# Altium schematic symbol library processor_allwinner.SchLib: 6 symbols
Pins are listed as number, name and electrical type; pins without a type are passive.

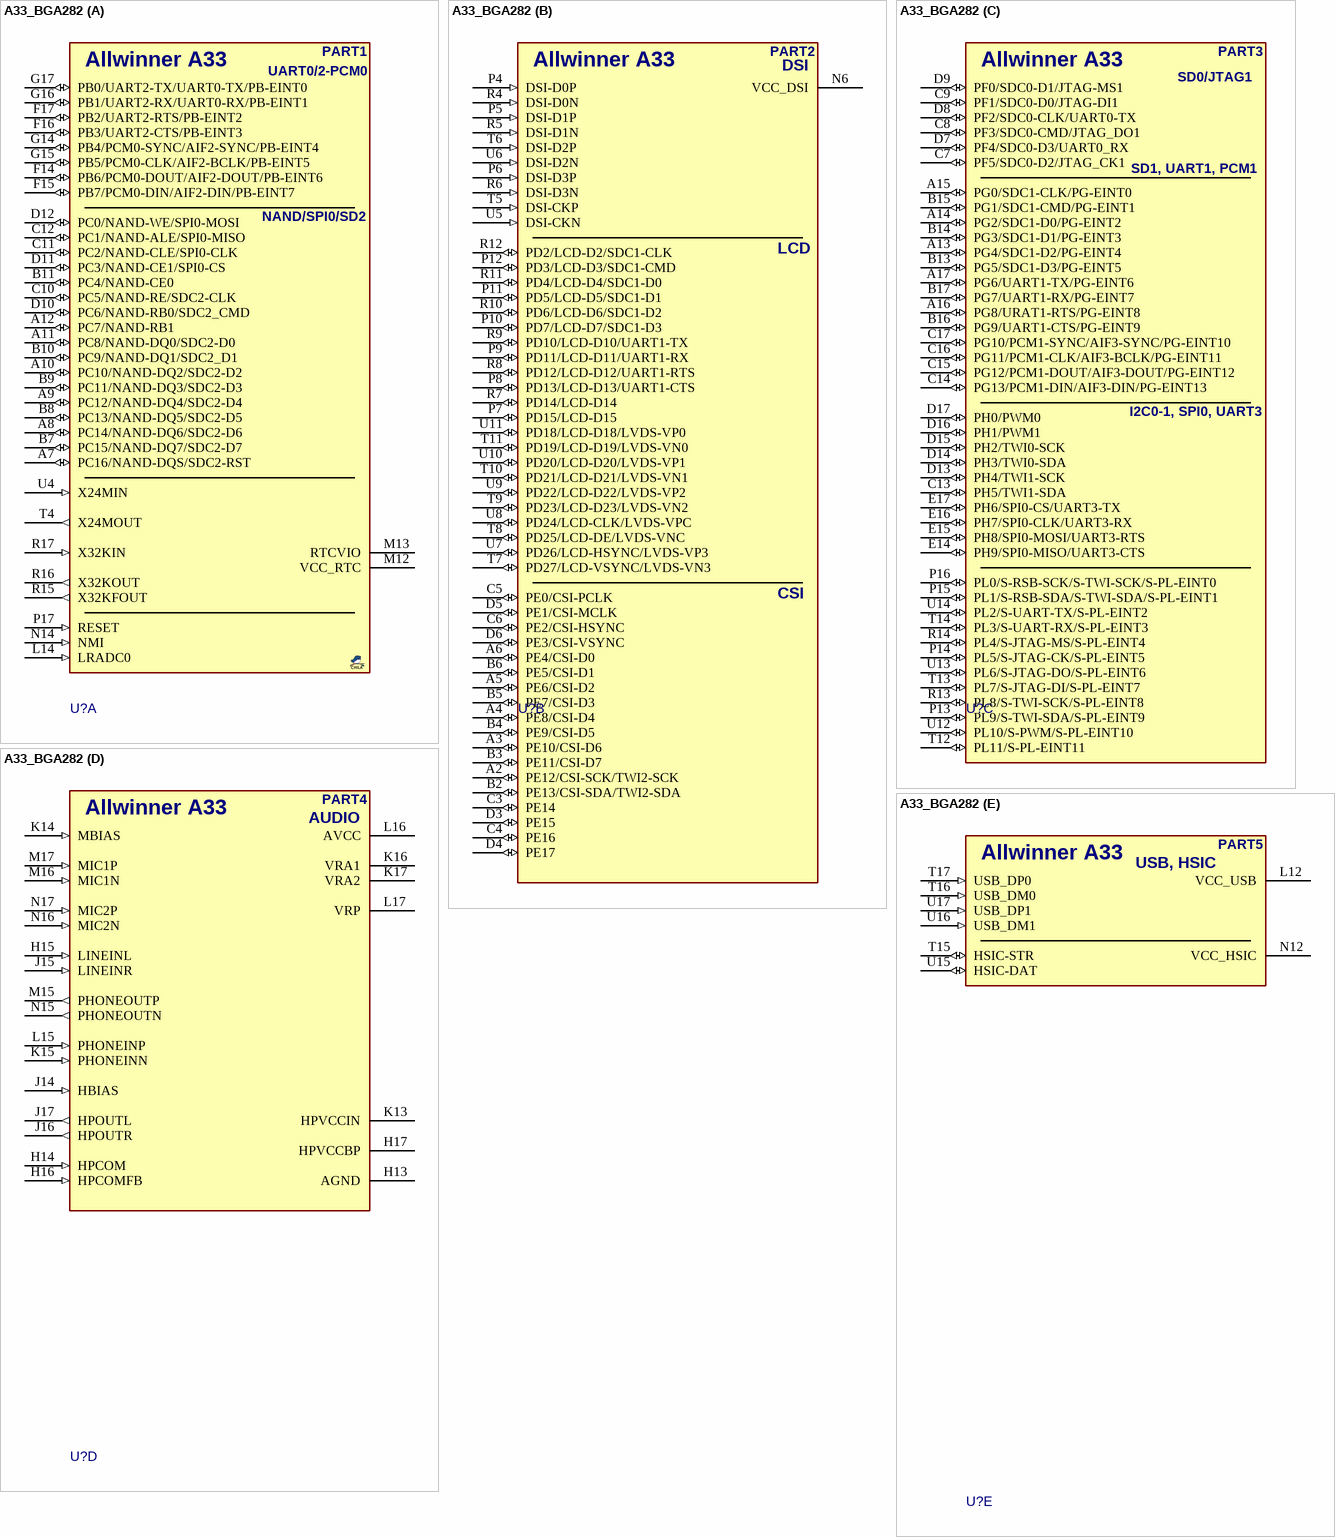
[diagram p0: symbol A33_BGA282]

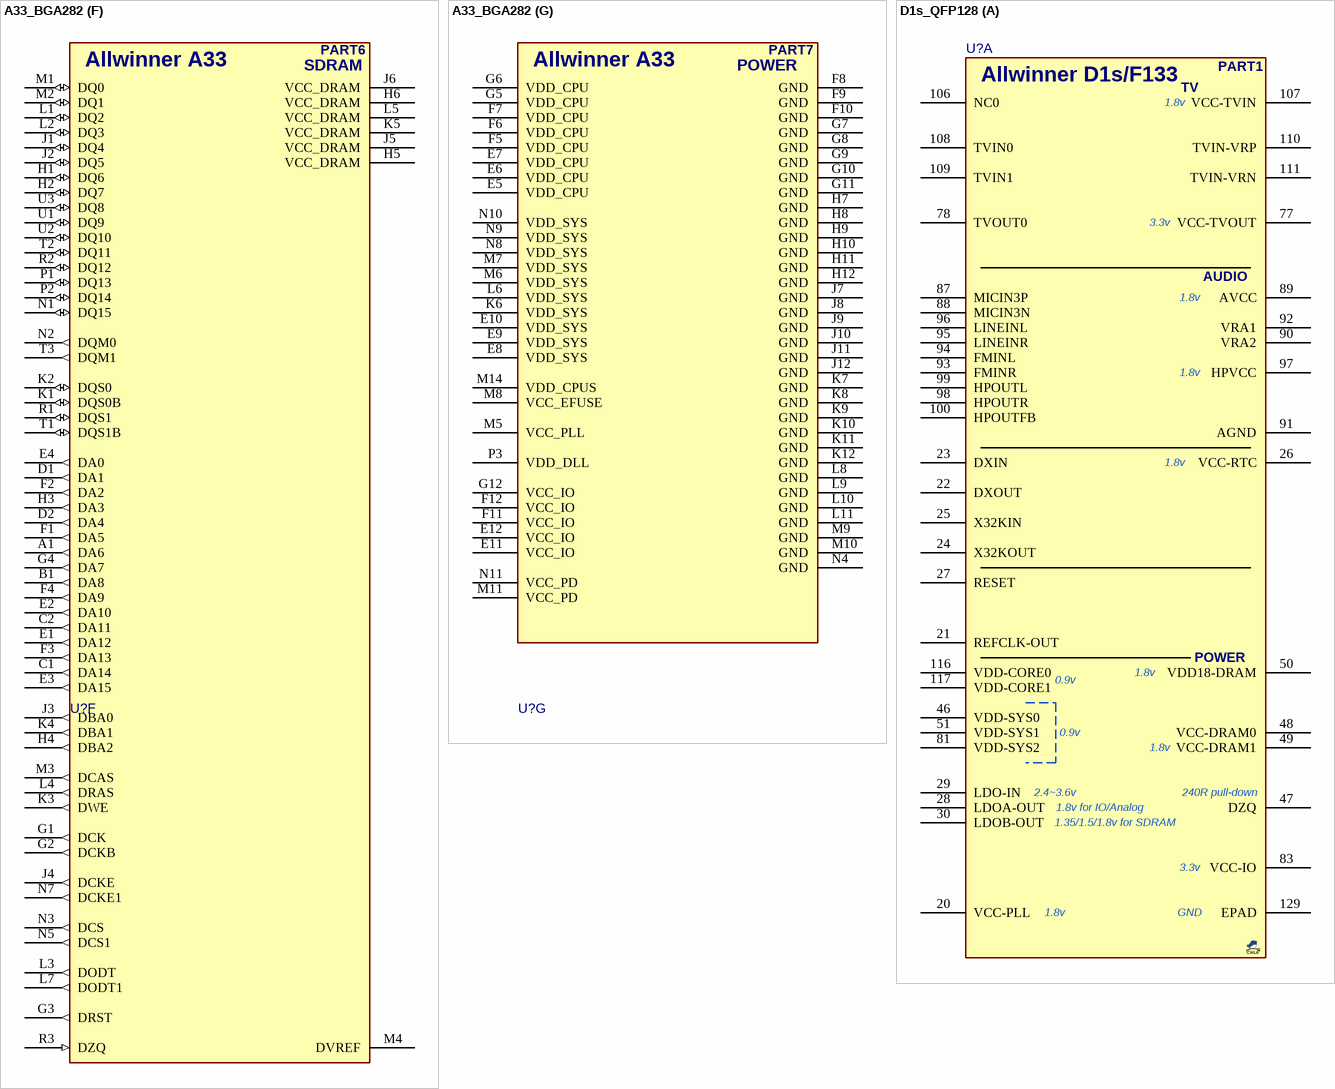
[diagram p1: symbols A33_BGA282 to D1s_QFP128]

## A33_BGA282
designator U?, comment Allwinner A33  (value not drawn)
processor, Cortex-A7 x4, Mali400MP2 GPU; PARAM: 4x Cortex-A7; MANF: Allwinner; MANF_P#: A33; VALUE: Allwinner A33; PACKAGE: TFBGA-282
footprint BGA80_282_S14 (TFBGA282, 0.8mm pitch, 14x14x1.3mm)
part A pins: A7 PC16/NAND-DQS/SDC2-RST (io), A8 PC14/NAND-DQ6/SDC2-D6 (io), A9 PC12/NAND-DQ4/SDC2-D4 (io), A10 PC10/NAND-DQ2/SDC2-D2 (io), A11 PC8/NAND-DQ0/SDC2-D0 (io), A12 PC7/NAND-RB1 (io), B7 PC15/NAND-DQ7/SDC2-D7 (io), B8 PC13/NAND-DQ5/SDC2-D5 (io), B9 PC11/NAND-DQ3/SDC2-D3 (io), B10 PC9/NAND-DQ1/SDC2_D1 (io), B11 PC4/NAND-CE0 (io), C10 PC5/NAND-RE/SDC2-CLK (io), C11 PC2/NAND-CLE/SPI0-CLK (io), C12 PC1/NAND-ALE/SPI0-MISO (io), D10 PC6/NAND-RB0/SDC2_CMD (io), D11 PC3/NAND-CE1/SPI0-CS (io), D12 PC0/NAND-WE/SPI0-MOSI (io), F14 PB6/PCM0-DOUT/AIF2-DOUT/PB-EINT6 (io), F15 PB7/PCM0-DIN/AIF2-DIN/PB-EINT7 (io), F16 PB3/UART2-CTS/PB-EINT3 (io), F17 PB2/UART2-RTS/PB-EINT2 (io), G14 PB4/PCM0-SYNC/AIF2-SYNC/PB-EINT4 (io), G15 PB5/PCM0-CLK/AIF2-BCLK/PB-EINT5 (io), G16 PB1/UART2-RX/UART0-RX/PB-EINT1 (io), G17 PB0/UART2-TX/UART0-TX/PB-EINT0 (io), L14 LRADC0 (in), M12 VCC_RTC, M13 RTCVIO (power), N14 NMI (in), P17 RESET (in), R15 X32KFOUT (out), R16 X32KOUT (out), R17 X32KIN (in), T4 X24MOUT (out), U4 X24MIN (in)
part B pins: A2 PE12/CSI-SCK/TWI2-SCK (io), A3 PE10/CSI-D6 (io), A4 PE8/CSI-D4 (io), A5 PE6/CSI-D2 (io), A6 PE4/CSI-D0 (io), B2 PE13/CSI-SDA/TWI2-SDA (io), B3 PE11/CSI-D7 (io), B4 PE9/CSI-D5 (io), B5 PE7/CSI-D3 (io), B6 PE5/CSI-D1 (io), C3 PE14 (io), C4 PE16 (io), C5 PE0/CSI-PCLK (io), C6 PE2/CSI-HSYNC (io), D3 PE15 (io), D4 PE17 (io), D5 PE1/CSI-MCLK (io), D6 PE3/CSI-VSYNC (io), N6 VCC_DSI, P4 DSI-D0P (in), P5 DSI-D1P (in), P6 DSI-D3P (in), P7 PD15/LCD-D15 (io), P8 PD13/LCD-D13/UART1-CTS (io), P9 PD11/LCD-D11/UART1-RX (io), P10 PD7/LCD-D7/SDC1-D3 (io), P11 PD5/LCD-D5/SDC1-D1 (io), P12 PD3/LCD-D3/SDC1-CMD (io), R4 DSI-D0N (in), R5 DSI-D1N (in), R6 DSI-D3N (in), R7 PD14/LCD-D14 (io), R8 PD12/LCD-D12/UART1-RTS (io), R9 PD10/LCD-D10/UART1-TX (io), R10 PD6/LCD-D6/SDC1-D2 (io), R11 PD4/LCD-D4/SDC1-D0 (io), R12 PD2/LCD-D2/SDC1-CLK (io), T5 DSI-CKP (in), T6 DSI-D2P (in), T7 PD27/LCD-VSYNC/LVDS-VN3 (io), T8 PD25/LCD-DE/LVDS-VNC (io), T9 PD23/LCD-D23/LVDS-VN2 (io), T10 PD21/LCD-D21/LVDS-VN1 (io), T11 PD19/LCD-D19/LVDS-VN0 (io), U5 DSI-CKN (in), U6 DSI-D2N (in), U7 PD26/LCD-HSYNC/LVDS-VP3 (io), U8 PD24/LCD-CLK/LVDS-VPC (io), U9 PD22/LCD-D22/LVDS-VP2 (io), U10 PD20/LCD-D20/LVDS-VP1 (io), U11 PD18/LCD-D18/LVDS-VP0 (io)
part C pins: A13 PG4/SDC1-D2/PG-EINT4 (io), A14 PG2/SDC1-D0/PG-EINT2 (io), A15 PG0/SDC1-CLK/PG-EINT0 (io), A16 PG8/URAT1-RTS/PG-EINT8 (io), A17 PG6/UART1-TX/PG-EINT6 (io), B13 PG5/SDC1-D3/PG-EINT5 (io), B14 PG3/SDC1-D1/PG-EINT3 (io), B15 PG1/SDC1-CMD/PG-EINT1 (io), B16 PG9/UART1-CTS/PG-EINT9 (io), B17 PG7/UART1-RX/PG-EINT7 (io), C7 PF5/SDC0-D2/JTAG_CK1 (io), C8 PF3/SDC0-CMD/JTAG_DO1 (io), C9 PF1/SDC0-D0/JTAG-DI1 (io), C13 PH5/TWI1-SDA (io), C14 PG13/PCM1-DIN/AIF3-DIN/PG-EINT13 (io), C15 PG12/PCM1-DOUT/AIF3-DOUT/PG-EINT12 (io), C16 PG11/PCM1-CLK/AIF3-BCLK/PG-EINT11 (io), C17 PG10/PCM1-SYNC/AIF3-SYNC/PG-EINT10 (io), D7 PF4/SDC0-D3/UART0_RX (io), D8 PF2/SDC0-CLK/UART0-TX (io), D9 PF0/SDC0-D1/JTAG-MS1 (io), D13 PH4/TWI1-SCK (io), D14 PH3/TWI0-SDA (io), D15 PH2/TWI0-SCK (io), D16 PH1/PWM1 (io), D17 PH0/PWM0 (io), E14 PH9/SPI0-MISO/UART3-CTS (io), E15 PH8/SPI0-MOSI/UART3-RTS (io), E16 PH7/SPI0-CLK/UART3-RX (io), E17 PH6/SPI0-CS/UART3-TX (io), P13 PL9/S-TWI-SDA/S-PL-EINT9 (io), P14 PL5/S-JTAG-CK/S-PL-EINT5 (io), P15 PL1/S-RSB-SDA/S-TWI-SDA/S-PL-EINT1 (io), P16 PL0/S-RSB-SCK/S-TWI-SCK/S-PL-EINT0 (io), R13 PL8/S-TWI-SCK/S-PL-EINT8 (io), R14 PL4/S-JTAG-MS/S-PL-EINT4 (io), T12 PL11/S-PL-EINT11 (io), T13 PL7/S-JTAG-DI/S-PL-EINT7 (io), T14 PL3/S-UART-RX/S-PL-EINT3 (io), U12 PL10/S-PWM/S-PL-EINT10 (io), U13 PL6/S-JTAG-DO/S-PL-EINT6 (io), U14 PL2/S-UART-TX/S-PL-EINT2 (io)
part D pins: H13 AGND (power), H14 HPCOM (in), H15 LINEINL (in), H16 HPCOMFB (in), H17 HPVCCBP (power), J14 HBIAS (in), J15 LINEINR (in), J16 HPOUTR (out), J17 HPOUTL (out), K13 HPVCCIN (power), K14 MBIAS (in), K15 PHONEINN (in), K16 VRA1, K17 VRA2, L15 PHONEINP (in), L16 AVCC (power), L17 VRP, M15 PHONEOUTP (out), M16 MIC1N (in), M17 MIC1P (in), N15 PHONEOUTN (out), N16 MIC2N (in), N17 MIC2P (in)
part E pins: L12 VCC_USB, N12 VCC_HSIC, T15 HSIC-STR (io), T16 USB_DM0 (in), T17 USB_DP0 (in), U15 HSIC-DAT (io), U16 USB_DM1 (in), U17 USB_DP1 (in)
part F pins: A1 DA6 (out), B1 DA8 (out), C1 DA14 (out), C2 DA11 (out), D1 DA1 (out), D2 DA4 (out), E1 DA12 (out), E2 DA10 (out), E3 DA15 (out), E4 DA0 (out), F1 DA5 (out), F2 DA2 (out), F3 DA13 (out), F4 DA9 (out), G1 DCK (out), G2 DCKB (out), G3 DRST (out), G4 DA7 (out), H1 DQ6 (io), H2 DQ7 (io), H3 DA3 (out), H4 DBA2 (out), H5 VCC_DRAM, H6 VCC_DRAM, J1 DQ4 (io), J2 DQ5 (io), J3 DBA0 (out), J4 DCKE (out), J5 VCC_DRAM, J6 VCC_DRAM, K1 DQS0B (io), K2 DQS0 (io), K3 DWE (out), K4 DBA1 (out), K5 VCC_DRAM, L1 DQ2 (io), L2 DQ3 (io), L3 DODT (out), L4 DRAS (out), L5 VCC_DRAM, L7 DODT1 (out), M1 DQ0 (io), M2 DQ1 (io), M3 DCAS (out), M4 DVREF (power), N1 DQ15 (io), N2 DQM0 (out), N3 DCS (out), N5 DCS1 (out), N7 DCKE1 (out), P1 DQ13 (io), P2 DQ14 (io), R1 DQS1 (io), R2 DQ12 (io), R3 DZQ (in), T1 DQS1B (io), T2 DQ11 (io), T3 DQM1 (out), U1 DQ9 (io), U2 DQ10 (io), U3 DQ8 (io)
part G pins: E5 VDD_CPU, E6 VDD_CPU, E7 VDD_CPU, E8 VDD_SYS, E9 VDD_SYS, E10 VDD_SYS, E11 VCC_IO, E12 VCC_IO, F5 VDD_CPU, F6 VDD_CPU, F7 VDD_CPU, F8 GND, F9 GND, F10 GND, F11 VCC_IO, F12 VCC_IO, G5 VDD_CPU, G6 VDD_CPU, G7 GND, G8 GND, G9 GND, G10 GND, G11 GND, G12 VCC_IO, H7 GND, H8 GND, H9 GND, H10 GND, H11 GND, H12 GND, J7 GND, J8 GND, J9 GND, J10 GND, J11 GND, J12 GND, K6 VDD_SYS, K7 GND, K8 GND, K9 GND, K10 GND, K11 GND, K12 GND, L6 VDD_SYS, L8 GND, L9 GND, L10 GND, L11 GND, M5 VCC_PLL, M6 VDD_SYS, M7 VDD_SYS, M8 VCC_EFUSE, M9 GND, M10 GND, M11 VCC_PD, M14 VDD_CPUS, N4 GND, N8 VDD_SYS, N9 VDD_SYS, N10 VDD_SYS, N11 VCC_PD, P3 VDD_DLL
part A text: PART1; UART0/2-PCM0; NAND/SPI0/SD2
part B text: PART2; DSI; LCD; CSI
part C text: PART3; SD0/JTAG1; SD1, UART1, PCM1; I2C0-1, SPI0, UART3
part D text: PART4; AUDIO
part E text: PART5; USB, HSIC
part F text: PART6; SDRAM
part G text: PART7; POWER

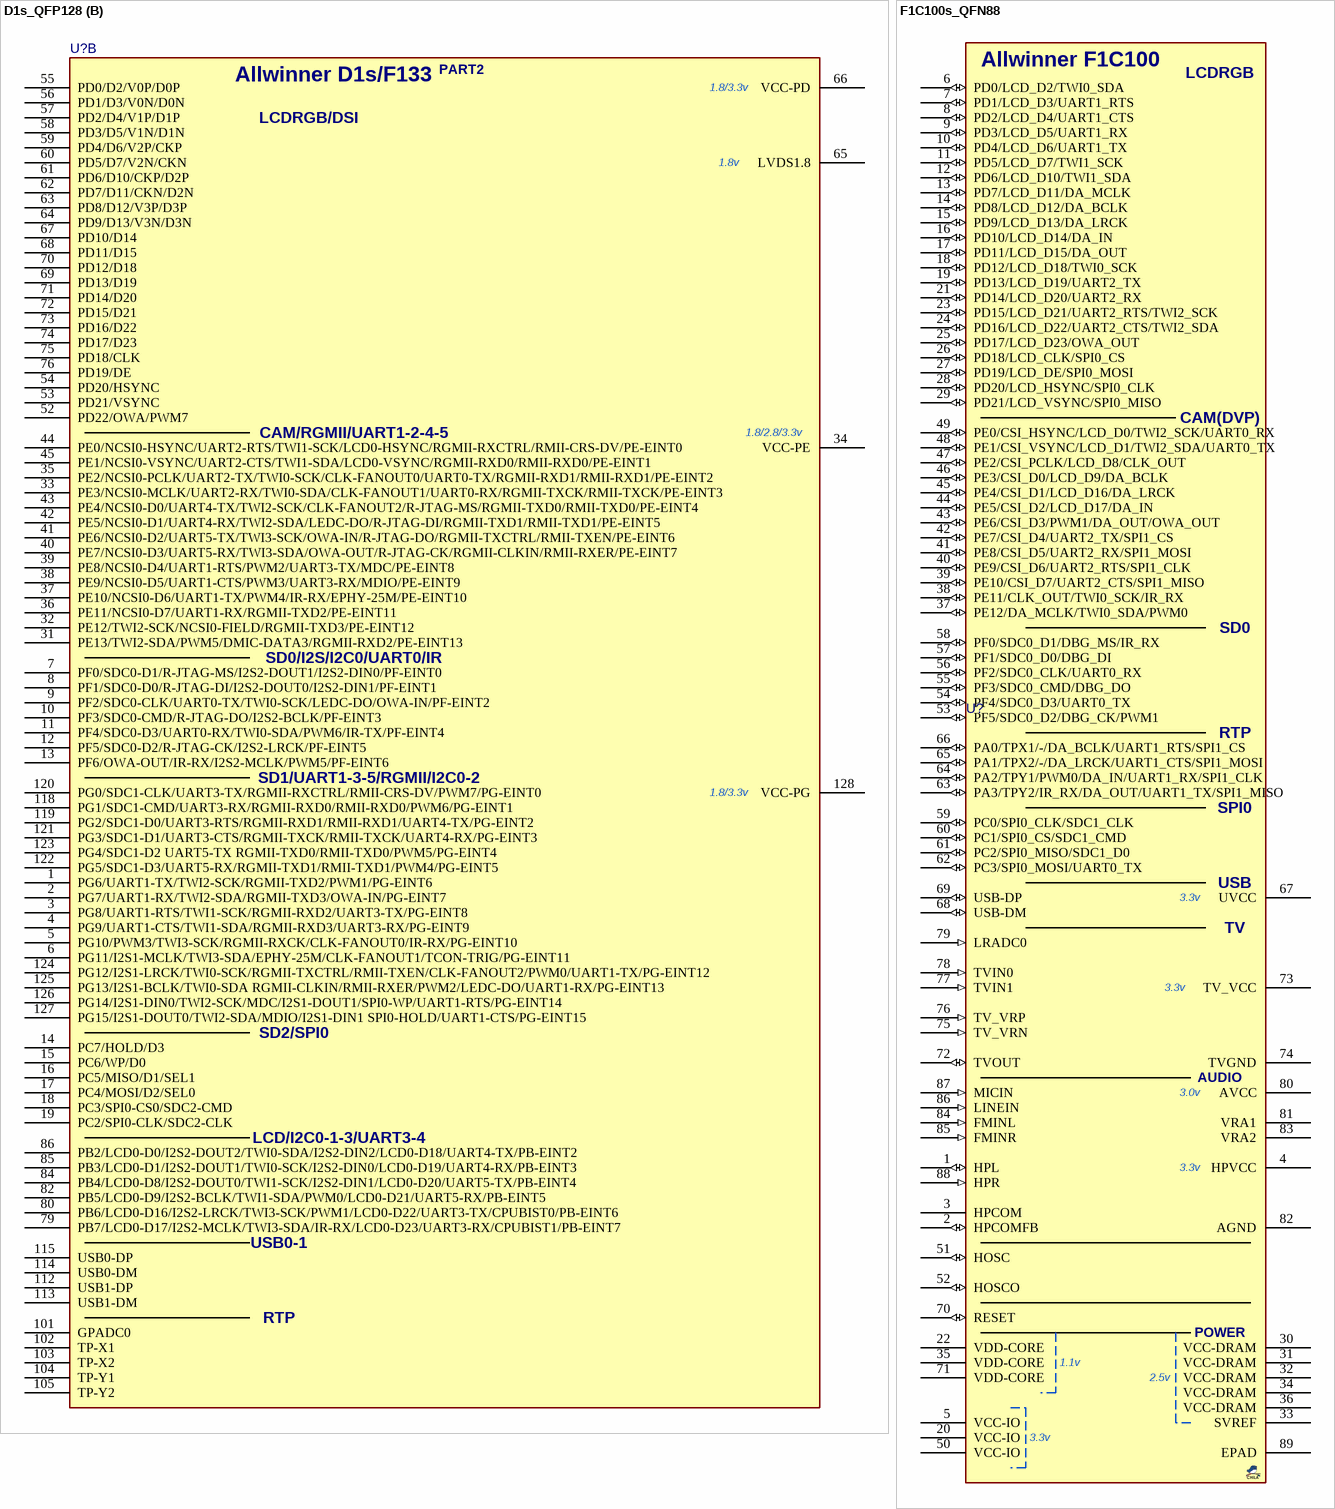
[diagram p2: symbols D1s_QFP128 to F1C100s_QFN88]

## D1s_QFP128
designator U?, comment Allwinner D1s  (value not drawn)
processor, RISC-V 533MHz w 64MB DDR2, eLQFP128; MANF_P#: F133, D1s; MANF: Allwinner; PARAM: RISC-V 533MHz w 64MB DDR2; VALUE: Allwinner D1s; PACKAGE: eLQFP-128
footprint QFG40_128T (LQFP128, PQFP-128, MS-026(JEDEC), 14X14mm, 0.4mm)
part A pins: 20 VCC-PLL, 21 REFCLK-OUT, 22 DXOUT, 23 DXIN, 24 X32KOUT, 25 X32KIN, 26 VCC-RTC, 27 RESET, 28 LDOA-OUT, 29 LDO-IN, 30 LDOB-OUT, 46 VDD-SYS0, 47 DZQ, 48 VCC-DRAM0, 49 VCC-DRAM1, 50 VDD18-DRAM, 51 VDD-SYS1, 77 VCC-TVOUT, 78 TVOUT0, 81 VDD-SYS2, 83 VCC-IO, 87 MICIN3P, 88 MICIN3N, 89 AVCC, 90 VRA2, 91 AGND, 92 VRA1, 93 FMINR, 94 FMINL, 95 LINEINR, 96 LINEINL, 97 HPVCC, 98 HPOUTR, 99 HPOUTL, 100 HPOUTFB, 106 NC0, 107 VCC-TVIN, 108 TVIN0, 109 TVIN1, 110 TVIN-VRP, 111 TVIN-VRN, 116 VDD-CORE0, 117 VDD-CORE1, 129 EPAD
part B pins: 1 PG6/UART1-TX/TWI2-SCK/RGMII-TXD2/PWM1/PG-EINT6, 2 PG7/UART1-RX/TWI2-SDA/RGMII-TXD3/OWA-IN/PG-EINT7, 3 PG8/UART1-RTS/TWI1-SCK/RGMII-RXD2/UART3-TX/PG-EINT8, 4 PG9/UART1-CTS/TWI1-SDA/RGMII-RXD3/UART3-RX/PG-EINT9, 5 PG10/PWM3/TWI3-SCK/RGMII-RXCK/CLK-FANOUT0/IR-RX/PG-EINT10, 6 PG11/I2S1-MCLK/TWI3-SDA/EPHY-25M/CLK-FANOUT1/TCON-TRIG/PG-EINT11, 7 PF0/SDC0-D1/R-JTAG-MS/I2S2-DOUT1/I2S2-DIN0/PF-EINT0, 8 PF1/SDC0-D0/R-JTAG-DI/I2S2-DOUT0/I2S2-DIN1/PF-EINT1, 9 PF2/SDC0-CLK/UART0-TX/TWI0-SCK/LEDC-DO/OWA-IN/PF-EINT2, 10 PF3/SDC0-CMD/R-JTAG-DO/I2S2-BCLK/PF-EINT3, 11 PF4/SDC0-D3/UART0-RX/TWI0-SDA/PWM6/IR-TX/PF-EINT4, 12 PF5/SDC0-D2/R-JTAG-CK/I2S2-LRCK/PF-EINT5, 13 PF6/OWA-OUT/IR-RX/I2S2-MCLK/PWM5/PF-EINT6, 14 PC7/HOLD/D3, 15 PC6/WP/D0, 16 PC5/MISO/D1/SEL1, 17 PC4/MOSI/D2/SEL0, 18 PC3/SPI0-CS0/SDC2-CMD, 19 PC2/SPI0-CLK/SDC2-CLK, 31 PE13/TWI2-SDA/PWM5/DMIC-DATA3/RGMII-RXD2/PE-EINT13, 32 PE12/TWI2-SCK/NCSI0-FIELD/RGMII-TXD3/PE-EINT12, 33 PE3/NCSI0-MCLK/UART2-RX/TWI0-SDA/CLK-FANOUT1/UART0-RX/RGMII-TXCK/RMII-TXCK/PE-EINT3, 34 VCC-PE, 35 PE2/NCSI0-PCLK/UART2-TX/TWI0-SCK/CLK-FANOUT0/UART0-TX/RGMII-RXD1/RMII-RXD1/PE-EINT2, 36 PE11/NCSI0-D7/UART1-RX/RGMII-TXD2/PE-EINT11, 37 PE10/NCSI0-D6/UART1-TX/PWM4/IR-RX/EPHY-25M/PE-EINT10, 38 PE9/NCSI0-D5/UART1-CTS/PWM3/UART3-RX/MDIO/PE-EINT9, 39 PE8/NCSI0-D4/UART1-RTS/PWM2/UART3-TX/MDC/PE-EINT8, 40 PE7/NCSI0-D3/UART5-RX/TWI3-SDA/OWA-OUT/R-JTAG-CK/RGMII-CLKIN/RMII-RXER/PE-EINT7, 41 PE6/NCSI0-D2/UART5-TX/TWI3-SCK/OWA-IN/R-JTAG-DO/RGMII-TXCTRL/RMII-TXEN/PE-EINT6, 42 PE5/NCSI0-D1/UART4-RX/TWI2-SDA/LEDC-DO/R-JTAG-DI/RGMII-TXD1/RMII-TXD1/PE-EINT5, 43 PE4/NCSI0-D0/UART4-TX/TWI2-SCK/CLK-FANOUT2/R-JTAG-MS/RGMII-TXD0/RMII-TXD0/PE-EINT4, 44 PE0/NCSI0-HSYNC/UART2-RTS/TWI1-SCK/LCD0-HSYNC/RGMII-RXCTRL/RMII-CRS-DV/PE-EINT0, 45 PE1/NCSI0-VSYNC/UART2-CTS/TWI1-SDA/LCD0-VSYNC/RGMII-RXD0/RMII-RXD0/PE-EINT1, 52 PD22/OWA/PWM7, 53 PD21/VSYNC, 54 PD20/HSYNC, 55 PD0/D2/V0P/D0P, 56 PD1/D3/V0N/D0N, 57 PD2/D4/V1P/D1P, 58 PD3/D5/V1N/D1N, 59 PD4/D6/V2P/CKP, 60 PD5/D7/V2N/CKN, 61 PD6/D10/CKP/D2P, 62 PD7/D11/CKN/D2N, 63 PD8/D12/V3P/D3P, 64 PD9/D13/V3N/D3N, 65 LVDS1.8, 66 VCC-PD, 67 PD10/D14, 68 PD11/D15, 69 PD13/D19, 70 PD12/D18, 71 PD14/D20, 72 PD15/D21, 73 PD16/D22, 74 PD17/D23, 75 PD18/CLK, 76 PD19/DE, 79 PB7/LCD0-D17/I2S2-MCLK/TWI3-SDA/IR-RX/LCD0-D23/UART3-RX/CPUBIST1/PB-EINT7, 80 PB6/LCD0-D16/I2S2-LRCK/TWI3-SCK/PWM1/LCD0-D22/UART3-TX/CPUBIST0/PB-EINT6, 82 PB5/LCD0-D9/I2S2-BCLK/TWI1-SDA/PWM0/LCD0-D21/UART5-RX/PB-EINT5, 84 PB4/LCD0-D8/I2S2-DOUT0/TWI1-SCK/I2S2-DIN1/LCD0-D20/UART5-TX/PB-EINT4, 85 PB3/LCD0-D1/I2S2-DOUT1/TWI0-SCK/I2S2-DIN0/LCD0-D19/UART4-RX/PB-EINT3, 86 PB2/LCD0-D0/I2S2-DOUT2/TWI0-SDA/I2S2-DIN2/LCD0-D18/UART4-TX/PB-EINT2, 101 GPADC0, 102 TP-X1, 103 TP-X2, 104 TP-Y1, 105 TP-Y2, 112 USB1-DP, 113 USB1-DM, 114 USB0-DM, 115 USB0-DP, 118 PG1/SDC1-CMD/UART3-RX/RGMII-RXD0/RMII-RXD0/PWM6/PG-EINT1, 119 PG2/SDC1-D0/UART3-RTS/RGMII-RXD1/RMII-RXD1/UART4-TX/PG-EINT2, 120 PG0/SDC1-CLK/UART3-TX/RGMII-RXCTRL/RMII-CRS-DV/PWM7/PG-EINT0, 121 PG3/SDC1-D1/UART3-CTS/RGMII-TXCK/RMII-TXCK/UART4-RX/PG-EINT3, 122 PG5/SDC1-D3/UART5-RX/RGMII-TXD1/RMII-TXD1/PWM4/PG-EINT5, 123 PG4/SDC1-D2 UART5-TX RGMII-TXD0/RMII-TXD0/PWM5/PG-EINT4, 124 PG12/I2S1-LRCK/TWI0-SCK/RGMII-TXCTRL/RMII-TXEN/CLK-FANOUT2/PWM0/UART1-TX/PG-EINT12, 125 PG13/I2S1-BCLK/TWI0-SDA RGMII-CLKIN/RMII-RXER/PWM2/LEDC-DO/UART1-RX/PG-EINT13, 126 PG14/I2S1-DIN0/TWI2-SCK/MDC/I2S1-DOUT1/SPI0-WP/UART1-RTS/PG-EINT14, 127 PG15/I2S1-DOUT0/TWI2-SDA/MDIO/I2S1-DIN1 SPI0-HOLD/UART1-CTS/PG-EINT15, 128 VCC-PG
part A text: PART1; Allwinner D1s/F133; TV; 1.8v; 3.3v; AUDIO; POWER; 0.9v; 2.4~3.6v; 240R pull-down; 1.8v for IO/Analog; 1.35/1.5/1.8v for SDRAM; GND
part B text: PART2; Allwinner D1s/F133; 1.8/3.3v; LCDRGB/DSI; 1.8v; CAM/RGMII/UART1-2-4-5; 1.8/2.8/3.3v; SD0/I2S/I2C0/UART0/IR; SD1/UART1-3-5/RGMII/I2C0-2; SD2/SPI0; LCD/I2C0-1-3/UART3-4; USB0-1; RTP

## F1C100s_QFN88
designator U?, comment Allwinner F1C100s  (value not drawn)
processor, ARM926EJ-S 533MHz w 32MB DDR1; MANF: Allwinner; MANF_P#: F1C100s; PARAM: ARM926EJ-S 533MHz w 32MB DDR1; VALUE: Allwinner F1C100s; PACKAGE: QFN-88
footprint QFN40_88T (QFN, 88-Leads, 10x10mm, Pitch 0.40mm)
pins: 1 HPL  (io), 2 HPCOMFB (io), 3 HPCOM, 4 HPVCC, 5 VCC-IO, 6 PD0/LCD_D2/TWI0_SDA (io), 7 PD1/LCD_D3/UART1_RTS  (io), 8 PD2/LCD_D4/UART1_CTS (io), 9 PD3/LCD_D5/UART1_RX (io), 10 PD4/LCD_D6/UART1_TX (io), 11 PD5/LCD_D7/TWI1_SCK  (io), 12 PD6/LCD_D10/TWI1_SDA  (io), 13 PD7/LCD_D11/DA_MCLK  (io), 14 PD8/LCD_D12/DA_BCLK  (io), 15 PD9/LCD_D13/DA_LRCK  (io), 16 PD10/LCD_D14/DA_IN  (io), 17 PD11/LCD_D15/DA_OUT (io), 18 PD12/LCD_D18/TWI0_SCK  (io), 19 PD13/LCD_D19/UART2_TX (io), 20 VCC-IO , 21 PD14/LCD_D20/UART2_RX  (io), 22 VDD-CORE, 23 PD15/LCD_D21/UART2_RTS/TWI2_SCK (io), 24 PD16/LCD_D22/UART2_CTS/TWI2_SDA (io), 25 PD17/LCD_D23/OWA_OUT (io), 26 PD18/LCD_CLK/SPI0_CS (io), 27 PD19/LCD_DE/SPI0_MOSI (io), 28 PD20/LCD_HSYNC/SPI0_CLK (io), 29 PD21/LCD_VSYNC/SPI0_MISO (io), 30 VCC-DRAM, 31 VCC-DRAM, 32 VCC-DRAM, 33 SVREF, 34 VCC-DRAM, 35 VDD-CORE, 36 VCC-DRAM, 37 PE12/DA_MCLK/TWI0_SDA/PWM0 (io), 38 PE11/CLK_OUT/TWI0_SCK/IR_RX (io), 39 PE10/CSI_D7/UART2_CTS/SPI1_MISO (io), 40 PE9/CSI_D6/UART2_RTS/SPI1_CLK (io), 41 PE8/CSI_D5/UART2_RX/SPI1_MOSI (io), 42 PE7/CSI_D4/UART2_TX/SPI1_CS (io), 43 PE6/CSI_D3/PWM1/DA_OUT/OWA_OUT (io), 44 PE5/CSI_D2/LCD_D17/DA_IN (io), 45 PE4/CSI_D1/LCD_D16/DA_LRCK (io), 46 PE3/CSI_D0/LCD_D9/DA_BCLK (io), 47 PE2/CSI_PCLK/LCD_D8/CLK_OUT (io), 48 PE1/CSI_VSYNC/LCD_D1/TWI2_SDA/UART0_TX (io), 49 PE0/CSI_HSYNC/LCD_D0/TWI2_SCK/UART0_RX (io), 50 VCC-IO, 51 HOSC (io), 52 HOSCO (io), 53 PF5/SDC0_D2/DBG_CK/PWM1 (io), 54 PF4/SDC0_D3/UART0_TX (io), 55 PF3/SDC0_CMD/DBG_DO (io), 56 PF2/SDC0_CLK/UART0_RX (io), 57 PF1/SDC0_D0/DBG_DI  (io), 58 PF0/SDC0_D1/DBG_MS/IR_RX (io), 59 PC0/SPI0_CLK/SDC1_CLK (io), 60 PC1/SPI0_CS/SDC1_CMD (io), 61 PC2/SPI0_MISO/SDC1_D0 (io), 62 PC3/SPI0_MOSI/UART0_TX (io), 63 PA3/TPY2/IR_RX/DA_OUT/UART1_TX/SPI1_MISO (io), 64 PA2/TPY1/PWM0/DA_IN/UART1_RX/SPI1_CLK (io), 65 PA1/TPX2/-/DA_LRCK/UART1_CTS/SPI1_MOSI (io), 66 PA0/TPX1/-/DA_BCLK/UART1_RTS/SPI1_CS (io), 67 UVCC, 68 USB-DM (io), 69 USB-DP (io), 70 RESET (io), 71 VDD-CORE, 72 TVOUT (io), 73 TV_VCC, 74 TVGND, 75 TV_VRN (in), 76 TV_VRP (in), 77 TVIN1 (in), 78 TVIN0 (in), 79 LRADC0 (in), 80 AVCC, 81 VRA1, 82 AGND, 83 VRA2, 84 FMINL (in), 85 FMINR (in), 86 LINEIN (in), 87 MICIN (in), 88 HPR (in), 89 EPAD
text: Allwinner F1C100; LCDRGB; CAM(DVP); SD0; RTP; SPI0; USB; 3.3v; TV; AUDIO; 3.0v; POWER; 1.1v; 2.5v

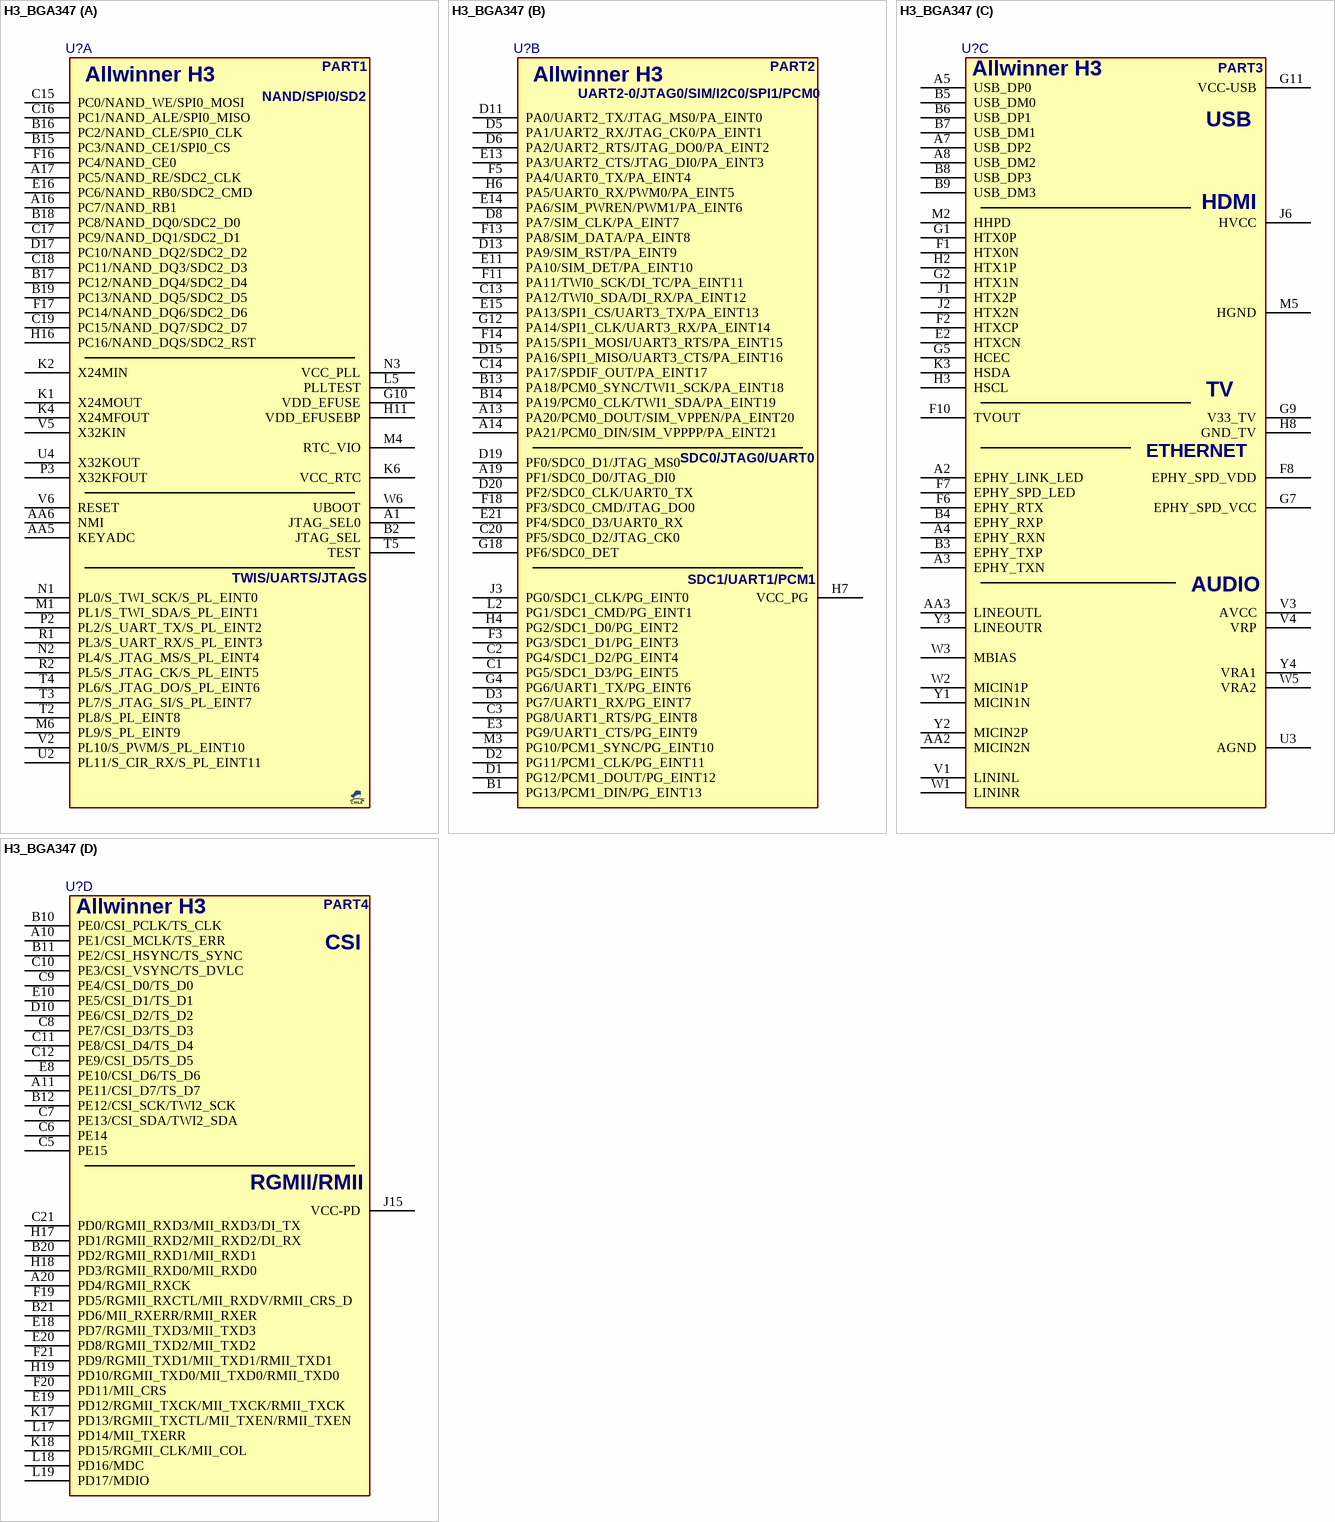
[diagram p3: symbol H3_BGA347]

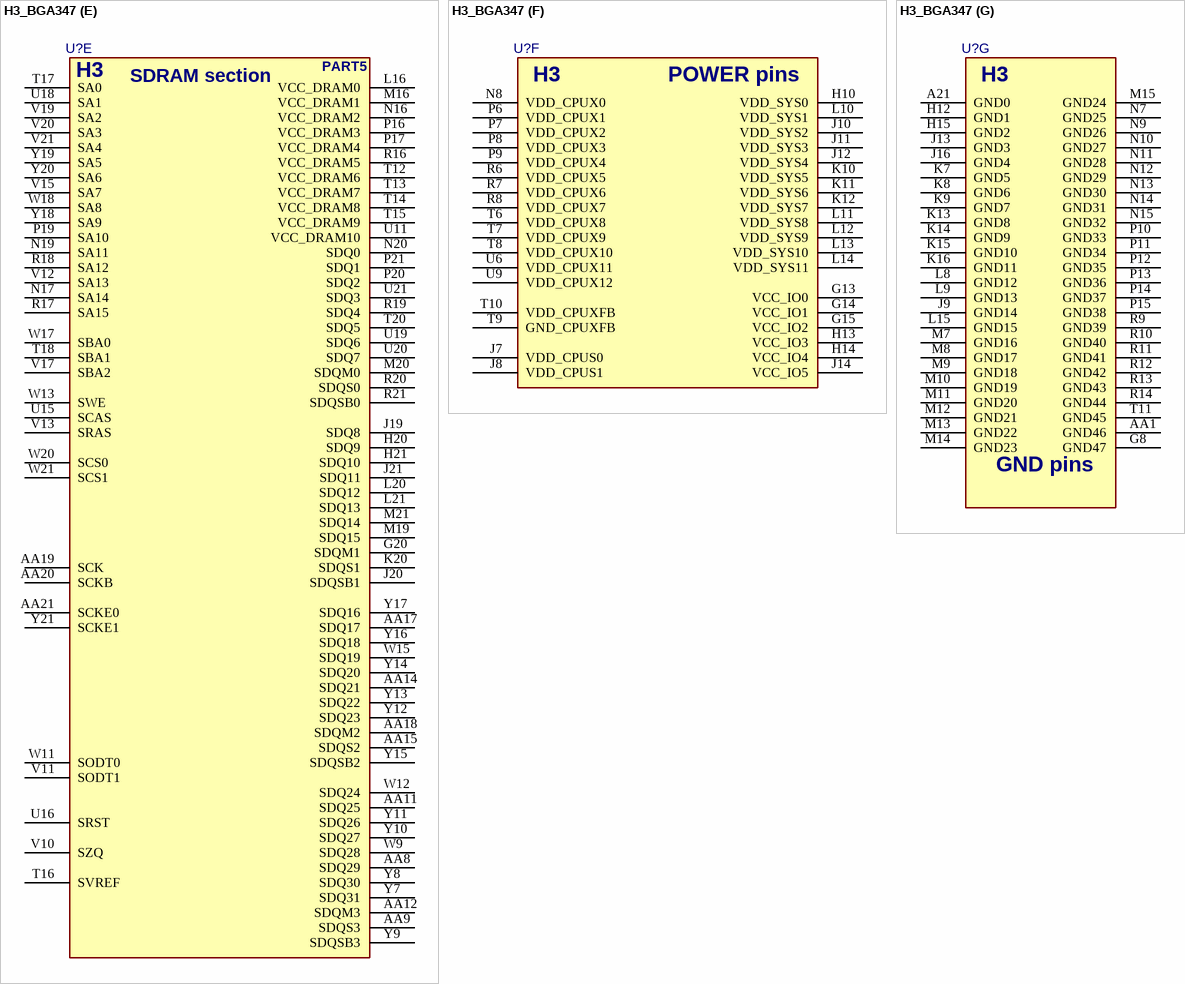
[diagram p4: symbol H3_BGA347]

## H3_BGA347
designator U?, comment Allwinner H3  (value not drawn)
processor, Cortex-A7 x4, Mali400MP2 GPU; PARAM: 4x Cortex-A7; MANF: Allwinner; MANF_P#: H3; VALUE: Allwinner H3; PACKAGE: FBGA-347
footprint BGA65_347_S14 (ALLWINNER H3, pitch 0.65mm, 14x14x1.2mm)
part A pins: A1 JTAG_SEL0, A16 PC7/NAND_RB1, A17 PC5/NAND_RE/SDC2_CLK, AA5 KEYADC, AA6 NMI, B2 JTAG_SEL, B15 PC3/NAND_CE1/SPI0_CS, B16 PC2/NAND_CLE/SPI0_CLK, B17 PC12/NAND_DQ4/SDC2_D4, B18 PC8/NAND_DQ0/SDC2_D0, B19 PC13/NAND_DQ5/SDC2_D5, C15 PC0/NAND_WE/SPI0_MOSI, C16 PC1/NAND_ALE/SPI0_MISO, C17 PC9/NAND_DQ1/SDC2_D1, C18 PC11/NAND_DQ3/SDC2_D3, C19 PC15/NAND_DQ7/SDC2_D7, D17 PC10/NAND_DQ2/SDC2_D2, E16 PC6/NAND_RB0/SDC2_CMD, F16 PC4/NAND_CE0, F17 PC14/NAND_DQ6/SDC2_D6, G10 VDD_EFUSE, H11 VDD_EFUSEBP, H16 PC16/NAND_DQS/SDC2_RST, K1 X24MOUT, K2 X24MIN, K4 X24MFOUT, K6 VCC_RTC, L5 PLLTEST, M1 PL1/S_TWI_SDA/S_PL_EINT1, M4 RTC_VIO, M6 PL9/S_PL_EINT9, N1 PL0/S_TWI_SCK/S_PL_EINT0, N2 PL4/S_JTAG_MS/S_PL_EINT4, N3 VCC_PLL, P2 PL2/S_UART_TX/S_PL_EINT2, P3 X32KFOUT, R1 PL3/S_UART_RX/S_PL_EINT3, R2 PL5/S_JTAG_CK/S_PL_EINT5, T2 PL8/S_PL_EINT8, T3 PL7/S_JTAG_SI/S_PL_EINT7, T4 PL6/S_JTAG_DO/S_PL_EINT6, T5 TEST, U2 PL11/S_CIR_RX/S_PL_EINT11, U4 X32KOUT (hiz), V2 PL10/S_PWM/S_PL_EINT10, V5 X32KIN (hiz), V6 RESET, W6 UBOOT
part B pins: A13 PA20/PCM0_DOUT/SIM_VPPEN/PA_EINT20, A14 PA21/PCM0_DIN/SIM_VPPPP/PA_EINT21, A19 PF1/SDC0_D0/JTAG_DI0, B1 PG13/PCM1_DIN/PG_EINT13, B13 PA18/PCM0_SYNC/TWI1_SCK/PA_EINT18, B14 PA19/PCM0_CLK/TWI1_SDA/PA_EINT19, C1 PG5/SDC1_D3/PG_EINT5, C2 PG4/SDC1_D2/PG_EINT4, C3 PG8/UART1_RTS/PG_EINT8, C13 PA12/TWI0_SDA/DI_RX/PA_EINT12, C14 PA17/SPDIF_OUT/PA_EINT17, C20 PF5/SDC0_D2/JTAG_CK0, D1 PG12/PCM1_DOUT/PG_EINT12, D2 PG11/PCM1_CLK/PG_EINT11, D3 PG7/UART1_RX/PG_EINT7, D5 PA1/UART2_RX/JTAG_CK0/PA_EINT1, D6 PA2/UART2_RTS/JTAG_DO0/PA_EINT2, D8 PA7/SIM_CLK/PA_EINT7, D11 PA0/UART2_TX/JTAG_MS0/PA_EINT0, D13 PA9/SIM_RST/PA_EINT9, D15 PA16/SPI1_MISO/UART3_CTS/PA_EINT16, D19 PF0/SDC0_D1/JTAG_MS0, D20 PF2/SDC0_CLK/UART0_TX, E3 PG9/UART1_CTS/PG_EINT9, E11 PA10/SIM_DET/PA_EINT10, E13 PA3/UART2_CTS/JTAG_DI0/PA_EINT3, E14 PA6/SIM_PWREN/PWM1/PA_EINT6, E15 PA13/SPI1_CS/UART3_TX/PA_EINT13, E21 PF4/SDC0_D3/UART0_RX, F3 PG3/SDC1_D1/PG_EINT3, F5 PA4/UART0_TX/PA_EINT4, F11 PA11/TWI0_SCK/DI_TC/PA_EINT11, F13 PA8/SIM_DATA/PA_EINT8, F14 PA15/SPI1_MOSI/UART3_RTS/PA_EINT15, F18 PF3/SDC0_CMD/JTAG_DO0, G4 PG6/UART1_TX/PG_EINT6, G12 PA14/SPI1_CLK/UART3_RX/PA_EINT14, G18 PF6/SDC0_DET, H4 PG2/SDC1_D0/PG_EINT2, H6 PA5/UART0_RX/PWM0/PA_EINT5, H7 VCC_PG, J3 PG0/SDC1_CLK/PG_EINT0, L2 PG1/SDC1_CMD/PG_EINT1, M3 PG10/PCM1_SYNC/PG_EINT10
part C pins: A2 EPHY_LINK_LED, A3 EPHY_TXN, A4 EPHY_RXN, A5 USB_DP0, A7 USB_DP2, A8 USB_DM2, AA2 MICIN2N, AA3 LINEOUTL, B3 EPHY_TXP, B4 EPHY_RXP, B5 USB_DM0, B6 USB_DP1, B7 USB_DM1, B8 USB_DP3, B9 USB_DM3, E2 HTXCN, F1 HTX0N, F2 HTXCP, F6 EPHY_RTX, F7 EPHY_SPD_LED, F8 EPHY_SPD_VDD, F10 TVOUT, G1 HTX0P, G2 HTX1N, G5 HCEC, G7 EPHY_SPD_VCC, G9 V33_TV, G11 VCC-USB, H2 HTX1P, H3 HSCL, H8 GND_TV, J1 HTX2P, J2 HTX2N, J6 HVCC, K3 HSDA, M2 HHPD, M5 HGND, U3 AGND, V1 LININL, V3 AVCC, V4 VRP, W1 LININR, W2 MICIN1P, W3 MBIAS, W5 VRA2, Y1 MICIN1N, Y2 MICIN2P, Y3 LINEOUTR, Y4 VRA1
part D pins: A10 PE1/CSI_MCLK/TS_ERR, A11 PE11/CSI_D7/TS_D7, A20 PD4/RGMII_RXCK, B10 PE0/CSI_PCLK/TS_CLK, B11 PE2/CSI_HSYNC/TS_SYNC, B12 PE12/CSI_SCK/TWI2_SCK, B20 PD2/RGMII_RXD1/MII_RXD1, B21 PD6/MII_RXERR/RMII_RXER, C5 PE15, C6 PE14, C7 PE13/CSI_SDA/TWI2_SDA, C8 PE7/CSI_D3/TS_D3, C9 PE4/CSI_D0/TS_D0, C10 PE3/CSI_VSYNC/TS_DVLC, C11 PE8/CSI_D4/TS_D4, C12 PE9/CSI_D5/TS_D5, C21 PD0/RGMII_RXD3/MII_RXD3/DI_TX, D10 PE6/CSI_D2/TS_D2, E8 PE10/CSI_D6/TS_D6, E10 PE5/CSI_D1/TS_D1, E18 PD7/RGMII_TXD3/MII_TXD3, E19 PD12/RGMII_TXCK/MII_TXCK/RMII_TXCK, E20 PD8/RGMII_TXD2/MII_TXD2, F19 PD5/RGMII_RXCTL/MII_RXDV/RMII_CRS_D, F20 PD11/MII_CRS, F21 PD9/RGMII_TXD1/MII_TXD1/RMII_TXD1, H17 PD1/RGMII_RXD2/MII_RXD2/DI_RX, H18 PD3/RGMII_RXD0/MII_RXD0, H19 PD10/RGMII_TXD0/MII_TXD0/RMII_TXD0, J15 VCC-PD, K17 PD13/RGMII_TXCTL/MII_TXEN/RMII_TXEN, K18 PD15/RGMII_CLK/MII_COL, L17 PD14/MII_TXERR, L18 PD16/MDC, L19 PD17/MDIO
part E pins: AA8 SDQ29, AA9 SDQS3, AA11 SDQ25, AA12 SDQM3, AA14 SDQ21, AA15 SDQS2, AA17 SDQ17, AA18 SDQM2, AA19 SCK, AA20 SCKB, AA21 SCKE0, G20 SDQM1, H20 SDQ9, H21 SDQ10, J19 SDQ8, J20 SDQSB1, J21 SDQ11, K20 SDQS1, L16 VCC_DRAM0, L20 SDQ12, L21 SDQ13, M16 VCC_DRAM1, M19 SDQ15, M20 SDQM0, M21 SDQ14, N16 VCC_DRAM2, N17 SA14, N19 SA11, N20 SDQ0, P16 VCC_DRAM3, P17 VCC_DRAM4, P19 SA10, P20 SDQ2, P21 SDQ1, R16 VCC_DRAM5, R17 SA15, R18 SA12, R19 SDQ4, R20 SDQS0, R21 SDQSB0, T12 VCC_DRAM6, T13 VCC_DRAM7, T14 VCC_DRAM8, T15 VCC_DRAM9, T16 SVREF, T17 SA0, T18 SBA1, T20 SDQ5, U11 VCC_DRAM10, U15 SCAS, U16 SRST, U18 SA1, U19 SDQ6, U20 SDQ7, U21 SDQ3, V10 SZQ, V11 SODT1, V12 SA13, V13 SRAS, V15 SA7, V17 SBA2, V19 SA2, V20 SA3, V21 SA4, W9 SDQ28, W11 SODT0, W12 SDQ24, W13 SWE, W15 SDQ19, W17 SBA0, W18 SA8, W20 SCS0, W21 SCS1, Y7 SDQ31, Y8 SDQ30, Y9 SDQSB3, Y10 SDQ27, Y11 SDQ26, Y12 SDQ23, Y13 SDQ22, Y14 SDQ20, Y15 SDQSB2, Y16 SDQ18, Y17 SDQ16, Y18 SA9, Y19 SA5, Y20 SA6, Y21 SCKE1
part F pins: G13 VCC_IO0 (hiz), G14 VCC_IO1 (hiz), G15 VCC_IO2 (hiz), H10 VDD_SYS0 (hiz), H13 VCC_IO3 (hiz), H14 VCC_IO4 (hiz), J7 VDD_CPUS0 (hiz), J8 VDD_CPUS1 (hiz), J10 VDD_SYS2 (hiz), J11 VDD_SYS3 (hiz), J12 VDD_SYS4 (hiz), J14 VCC_IO5 (hiz), K10 VDD_SYS5 (hiz), K11 VDD_SYS6 (hiz), K12 VDD_SYS7 (hiz), L10 VDD_SYS1 (hiz), L11 VDD_SYS8 (hiz), L12 VDD_SYS9 (hiz), L13 VDD_SYS10 (hiz), L14 VDD_SYS11 (hiz), N8 VDD_CPUX0 (hiz), P6 VDD_CPUX1 (hiz), P7 VDD_CPUX2 (hiz), P8 VDD_CPUX3 (hiz), P9 VDD_CPUX4 (hiz), R6 VDD_CPUX5 (hiz), R7 VDD_CPUX6 (hiz), R8 VDD_CPUX7 (hiz), T6 VDD_CPUX8 (hiz), T7 VDD_CPUX9 (hiz), T8 VDD_CPUX10 (hiz), T9 GND_CPUXFB (hiz), T10 VDD_CPUXFB (hiz), U6 VDD_CPUX11 (hiz), U9 VDD_CPUX12 (hiz)
part G pins: A21 GND0 (hiz), AA1 GND46 (hiz), G8 GND47 (hiz), H12 GND1 (hiz), H15 GND2 (hiz), J9 GND14 (hiz), J13 GND3 (hiz), J16 GND4 (hiz), K7 GND5 (hiz), K8 GND6 (hiz), K9 GND7 (hiz), K13 GND8 (hiz), K14 GND9 (hiz), K15 GND10 (hiz), K16 GND11 (hiz), L8 GND12 (hiz), L9 GND13 (hiz), L15 GND15 (hiz), M7 GND16 (hiz), M8 GND17 (hiz), M9 GND18 (hiz), M10 GND19 (hiz), M11 GND20 (hiz), M12 GND21 (hiz), M13 GND22 (hiz), M14 GND23 (hiz), M15 GND24 (hiz), N7 GND25 (hiz), N9 GND26 (hiz), N10 GND27 (hiz), N11 GND28 (hiz), N12 GND29 (hiz), N13 GND30 (hiz), N14 GND31 (hiz), N15 GND32 (hiz), P10 GND33 (hiz), P11 GND34 (hiz), P12 GND35 (hiz), P13 GND36 (hiz), P14 GND37 (hiz), P15 GND38 (hiz), R9 GND39 (hiz), R10 GND40 (hiz), R11 GND41 (hiz), R12 GND42 (hiz), R13 GND43 (hiz), R14 GND44 (hiz), T11 GND45 (hiz)
part A text: PART1; NAND/SPI0/SD2; TWIS/UARTS/JTAGS
part B text: PART2; UART2-0/JTAG0/SIM/I2C0/SPI1/PCM0; SDC0/JTAG0/UART0; SDC1/UART1/PCM1
part C text: PART3; USB; HDMI; TV; ETHERNET; AUDIO
part D text: PART4; CSI; RGMII/RMII
part E text: PART5; SDRAM section
part F text: POWER pins
part G text: GND pins

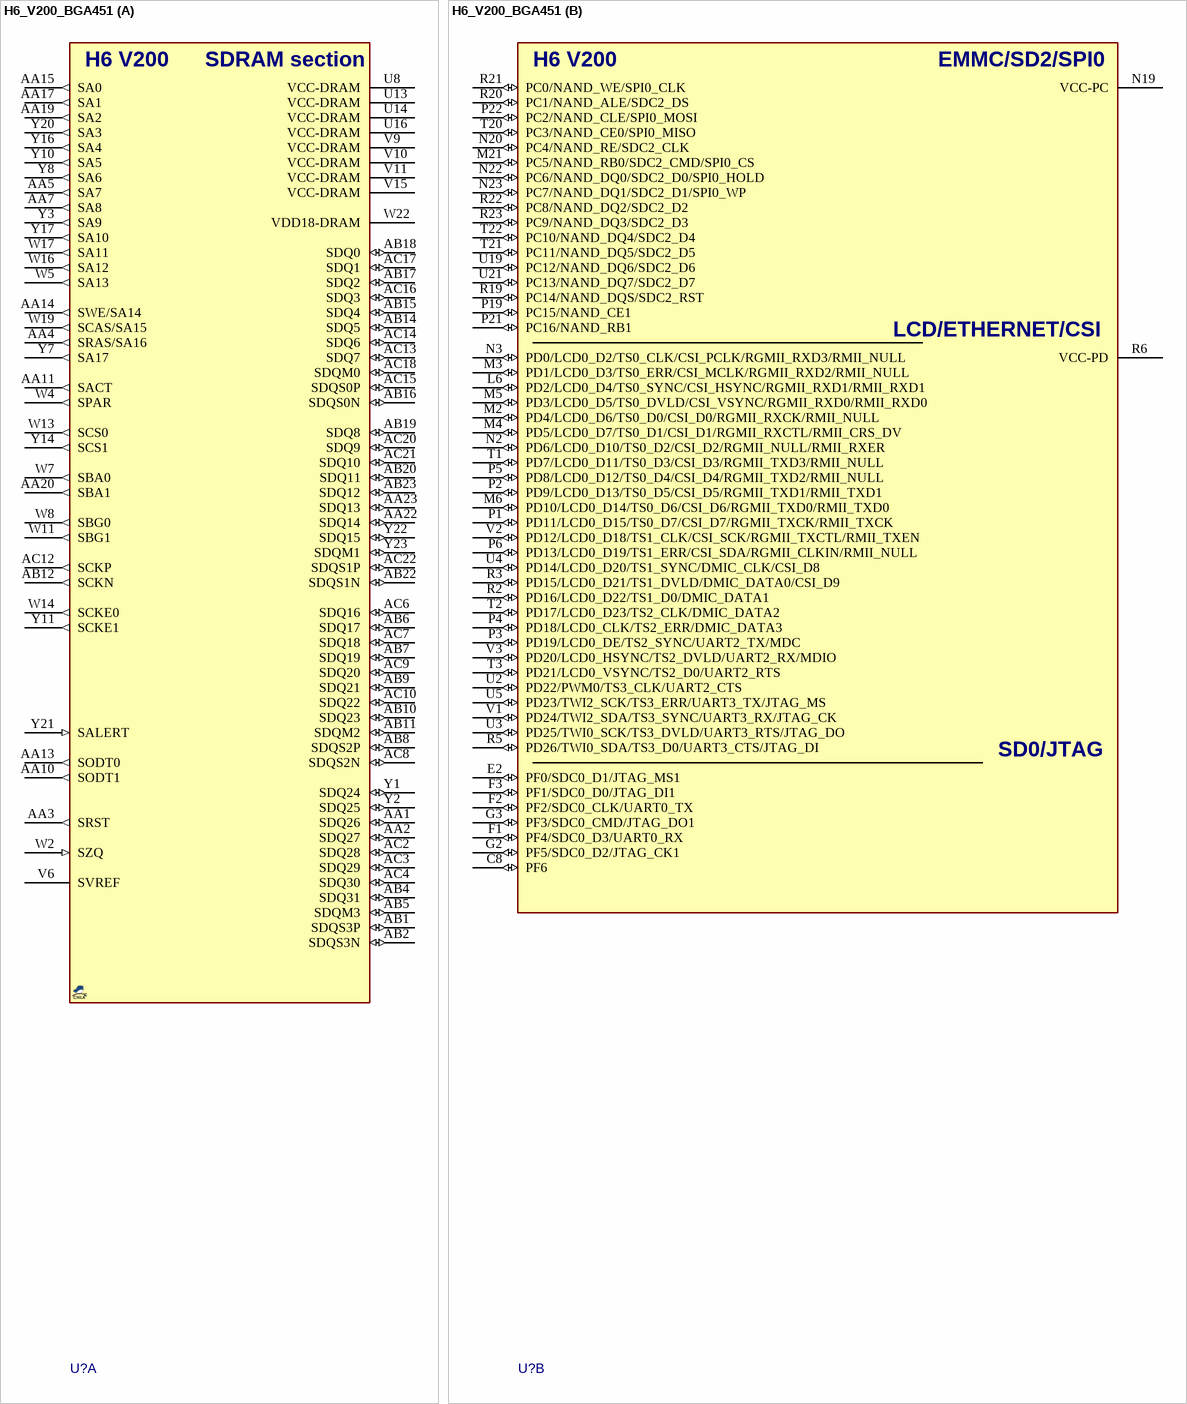
[diagram p5: symbol H6_V200_BGA451]

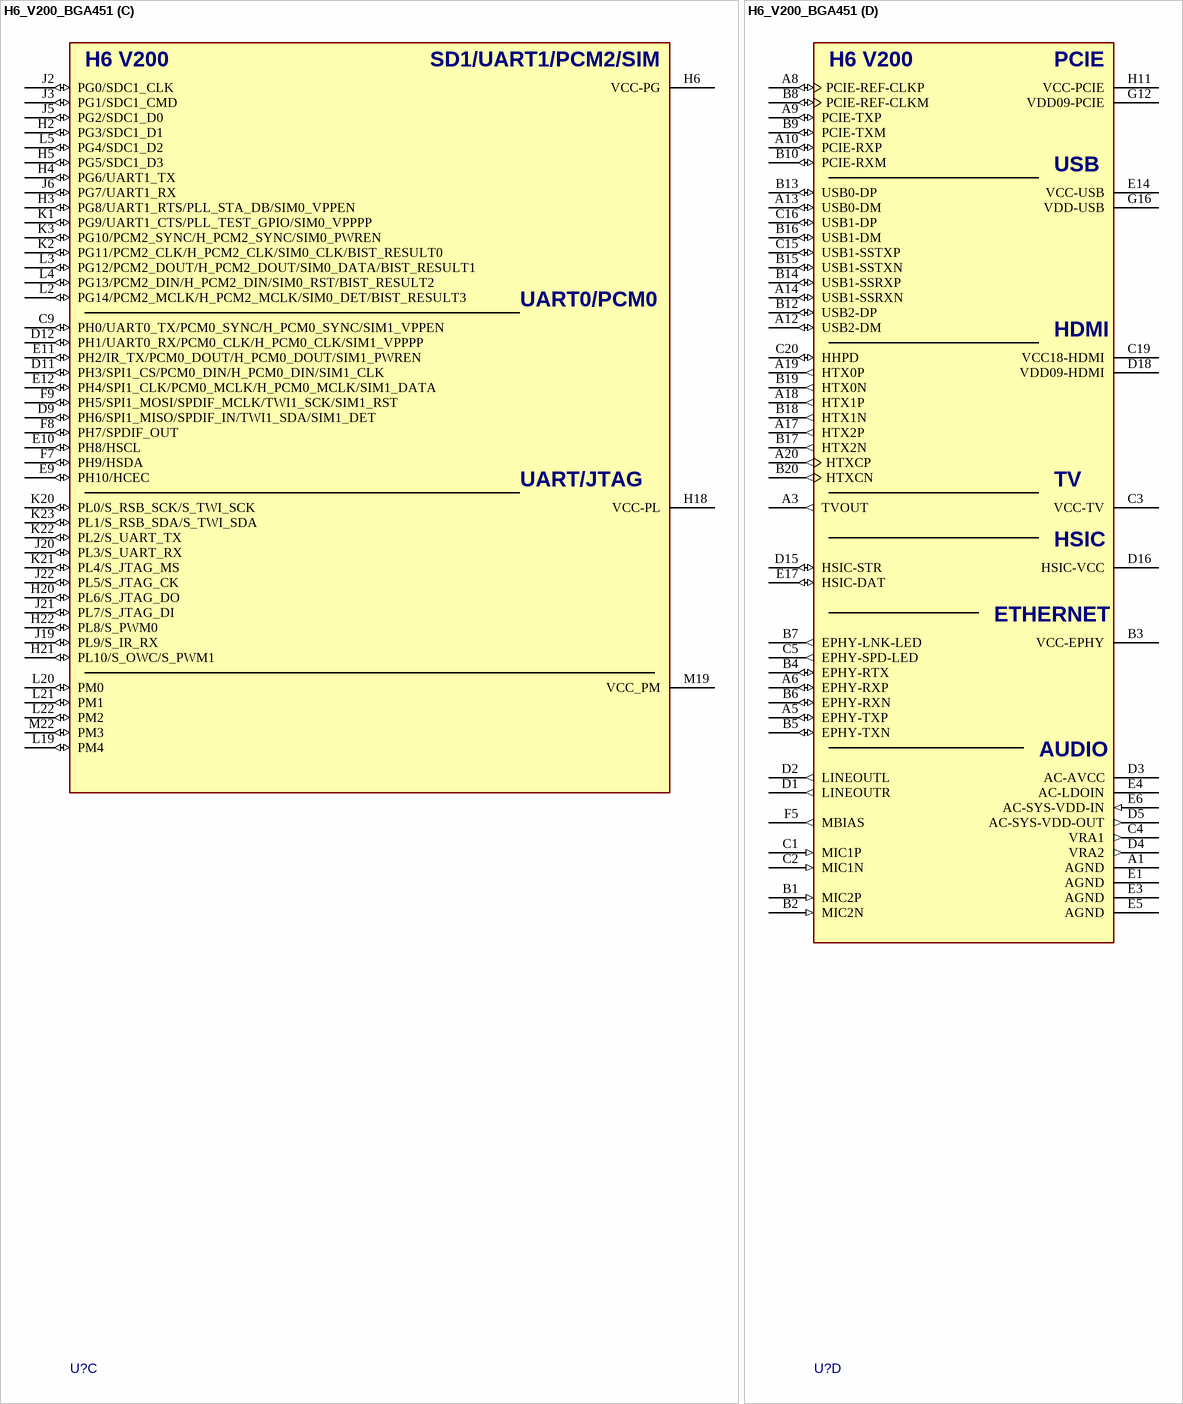
[diagram p6: symbol H6_V200_BGA451]

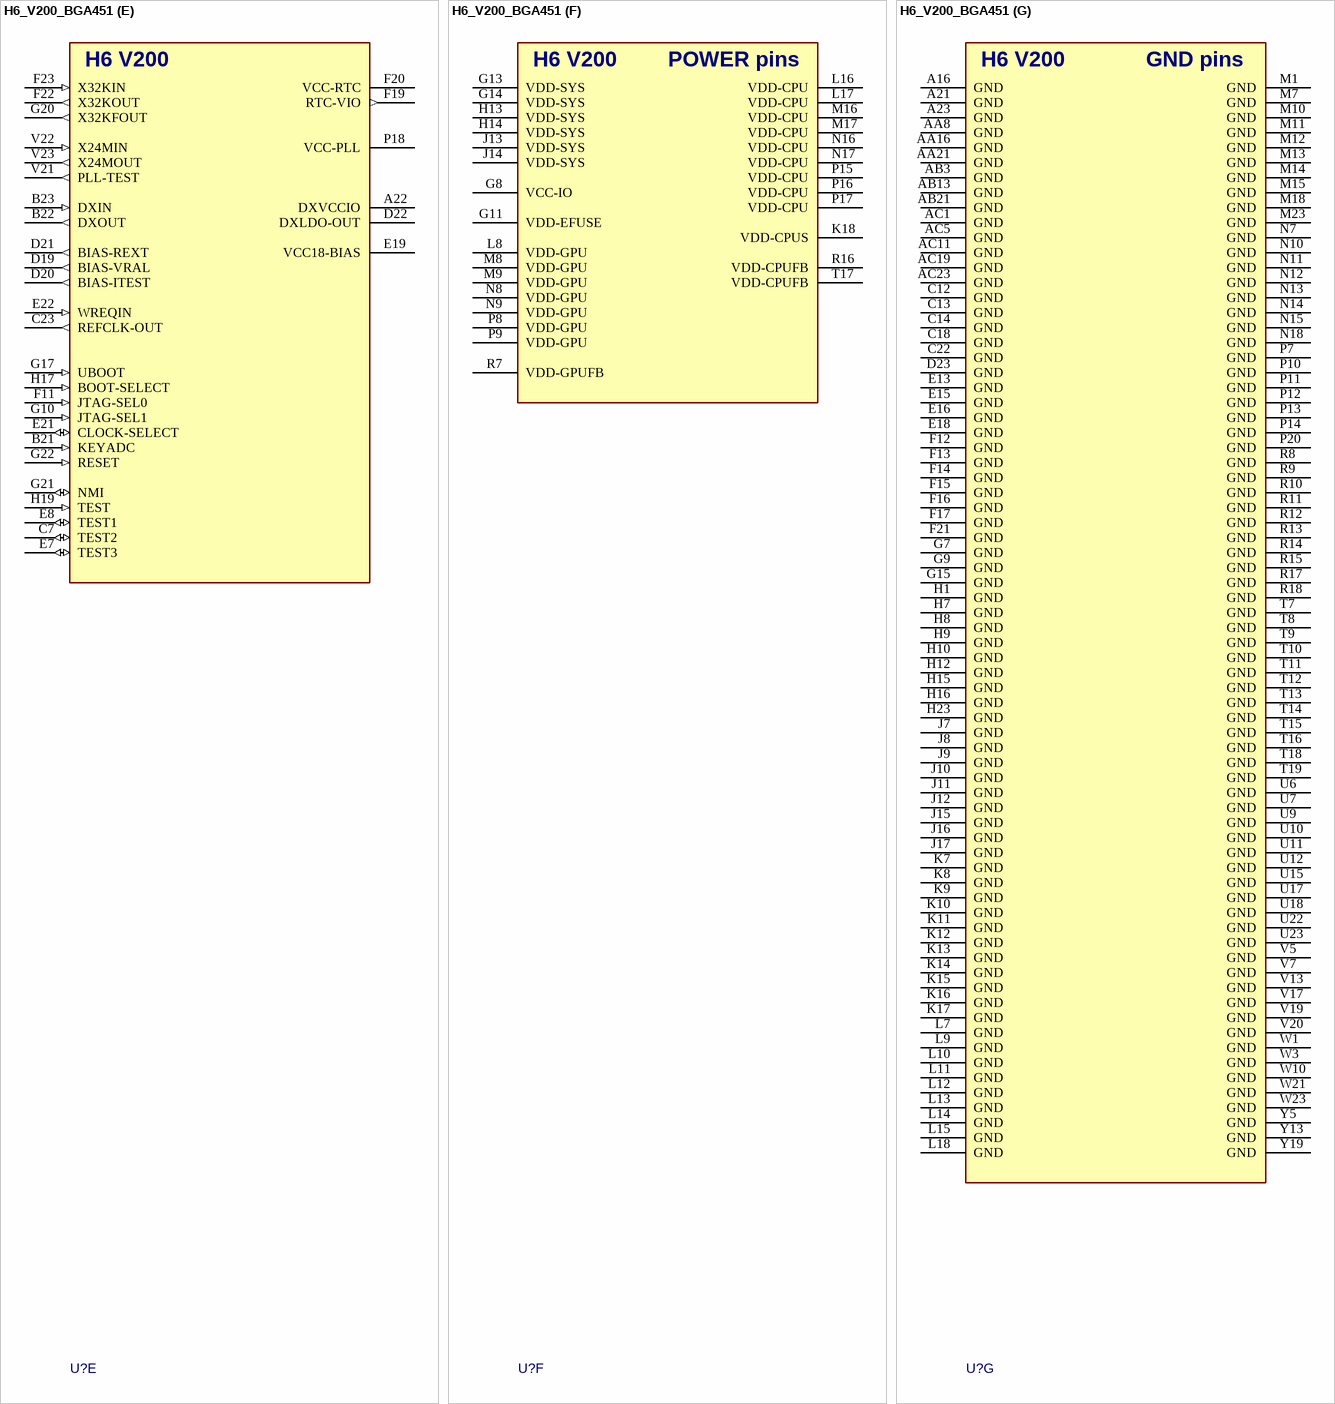
[diagram p7: symbol H6_V200_BGA451]

## H6_V200_BGA451
designator U?, comment Allwinner H6  (value not drawn)
Processor, Cortex-A53 x4; MANF_P#: H6 V200; PARAM: 4x Cortex-A53; MANF: Allwinner; PRICE: 9$; VALUE: Allwinner H6; PACKAGE: BGA-451
footprint BGA65_451_S15 (ALLWINNER H6, pitch 0.65mm, 15x15x1.2mm)
part A pins: AA1 SDQ26 (io), AA2 SDQ27 (io), AA3 SRST (out), AA4 SRAS/SA16 (out), AA5 SA7 (out), AA7 SA8 (out), AA10 SODT1 (out), AA11 SACT (out), AA13 SODT0 (out), AA14 SWE/SA14 (out), AA15 SA0 (out), AA17 SA1 (out), AA19 SA2 (out), AA20 SBA1 (out), AA22 SDQ14 (io), AA23 SDQ13 (io), AB1 SDQS3P (io), AB2 SDQS3N (io), AB4 SDQ31 (io), AB5 SDQM3 (io), AB6 SDQ17 (io), AB7 SDQ19 (io), AB8 SDQS2P (io), AB9 SDQ21 (io), AB10 SDQ23 (io), AB11 SDQM2 (io), AB12 SCKN (out), AB14 SDQ5 (io), AB15 SDQ4 (io), AB16 SDQS0N (io), AB17 SDQ2 (io), AB18 SDQ0 (io), AB19 SDQ8 (io), AB20 SDQ11 (io), AB22 SDQS1N (io), AB23 SDQ12 (io), AC2 SDQ28 (io), AC3 SDQ29 (io), AC4 SDQ30 (io), AC6 SDQ16 (io), AC7 SDQ18 (io), AC8 SDQS2N (io), AC9 SDQ20 (io), AC10 SDQ22 (io), AC12 SCKP (out), AC13 SDQ7 (io), AC14 SDQ6 (io), AC15 SDQS0P (io), AC16 SDQ3 (io), AC17 SDQ1 (io), AC18 SDQM0 (io), AC20 SDQ9 (io), AC21 SDQ10 (io), AC22 SDQS1P (io), U8 VCC-DRAM (power), U13 VCC-DRAM (power), U14 VCC-DRAM (power), U16 VCC-DRAM (power), V6 SVREF (power), V9 VCC-DRAM (power), V10 VCC-DRAM (power), V11 VCC-DRAM (power), V15 VCC-DRAM (power), W2 SZQ (in), W4 SPAR (out), W5 SA13 (out), W7 SBA0 (out), W8 SBG0 (out), W11 SBG1 (out), W13 SCS0 (out), W14 SCKE0 (out), W16 SA12 (out), W17 SA11 (out), W19 SCAS/SA15 (out), W22 VDD18-DRAM (power), Y1 SDQ24 (io), Y2 SDQ25 (io), Y3 SA9 (out), Y7 SA17 (out), Y8 SA6 (out), Y10 SA5 (out), Y11 SCKE1 (out), Y14 SCS1 (out), Y16 SA4 (out), Y17 SA10 (out), Y20 SA3 (out), Y21 SALERT (in), Y22 SDQ15 (io), Y23 SDQM1 (io)
part B pins: C8 PF6 (io), E2 PF0/SDC0_D1/JTAG_MS1 (io), F1 PF4/SDC0_D3/UART0_RX (io), F2 PF2/SDC0_CLK/UART0_TX (io), F3 PF1/SDC0_D0/JTAG_DI1 (io), G2 PF5/SDC0_D2/JTAG_CK1 (io), G3 PF3/SDC0_CMD/JTAG_DO1 (io), L6 PD2/LCD0_D4/TS0_SYNC/CSI_HSYNC/RGMII_RXD1/RMII_RXD1 (io), M2 PD4/LCD0_D6/TS0_D0/CSI_D0/RGMII_RXCK/RMII_NULL (io), M3 PD1/LCD0_D3/TS0_ERR/CSI_MCLK/RGMII_RXD2/RMII_NULL (io), M4 PD5/LCD0_D7/TS0_D1/CSI_D1/RGMII_RXCTL/RMII_CRS_DV (io), M5 PD3/LCD0_D5/TS0_DVLD/CSI_VSYNC/RGMII_RXD0/RMII_RXD0 (io), M6 PD10/LCD0_D14/TS0_D6/CSI_D6/RGMII_TXD0/RMII_TXD0 (io), M21 PC5/NAND_RB0/SDC2_CMD/SPI0_CS (io), N2 PD6/LCD0_D10/TS0_D2/CSI_D2/RGMII_NULL/RMII_RXER (io), N3 PD0/LCD0_D2/TS0_CLK/CSI_PCLK/RGMII_RXD3/RMII_NULL (io), N19 VCC-PC (power), N20 PC4/NAND_RE/SDC2_CLK (io), N22 PC6/NAND_DQ0/SDC2_D0/SPI0_HOLD (io), N23 PC7/NAND_DQ1/SDC2_D1/SPI0_WP (io), P1 PD11/LCD0_D15/TS0_D7/CSI_D7/RGMII_TXCK/RMII_TXCK (io), P2 PD9/LCD0_D13/TS0_D5/CSI_D5/RGMII_TXD1/RMII_TXD1 (io), P3 PD19/LCD0_DE/TS2_SYNC/UART2_TX/MDC (io), P4 PD18/LCD0_CLK/TS2_ERR/DMIC_DATA3 (io), P5 PD8/LCD0_D12/TS0_D4/CSI_D4/RGMII_TXD2/RMII_NULL (io), P6 PD13/LCD0_D19/TS1_ERR/CSI_SDA/RGMII_CLKIN/RMII_NULL (io), P19 PC15/NAND_CE1 (io), P21 PC16/NAND_RB1 (io), P22 PC2/NAND_CLE/SPI0_MOSI (io), R2 PD16/LCD0_D22/TS1_D0/DMIC_DATA1 (io), R3 PD15/LCD0_D21/TS1_DVLD/DMIC_DATA0/CSI_D9 (io), R5 PD26/TWI0_SDA/TS3_D0/UART3_CTS/JTAG_DI (io), R6 VCC-PD (power), R19 PC14/NAND_DQS/SDC2_RST (io), R20 PC1/NAND_ALE/SDC2_DS (io), R21 PC0/NAND_WE/SPI0_CLK (io), R22 PC8/NAND_DQ2/SDC2_D2 (io), R23 PC9/NAND_DQ3/SDC2_D3 (io), T1 PD7/LCD0_D11/TS0_D3/CSI_D3/RGMII_TXD3/RMII_NULL (io), T2 PD17/LCD0_D23/TS2_CLK/DMIC_DATA2 (io), T3 PD21/LCD0_VSYNC/TS2_D0/UART2_RTS (io), T20 PC3/NAND_CE0/SPI0_MISO (io), T21 PC11/NAND_DQ5/SDC2_D5 (io), T22 PC10/NAND_DQ4/SDC2_D4 (io), U2 PD22/PWM0/TS3_CLK/UART2_CTS (io), U3 PD25/TWI0_SCK/TS3_DVLD/UART3_RTS/JTAG_DO (io), U4 PD14/LCD0_D20/TS1_SYNC/DMIC_CLK/CSI_D8 (io), U5 PD23/TWI2_SCK/TS3_ERR/UART3_TX/JTAG_MS (io), U19 PC12/NAND_DQ6/SDC2_D6 (io), U21 PC13/NAND_DQ7/SDC2_D7 (io), V1 PD24/TWI2_SDA/TS3_SYNC/UART3_RX/JTAG_CK (io), V2 PD12/LCD0_D18/TS1_CLK/CSI_SCK/RGMII_TXCTL/RMII_TXEN (io), V3 PD20/LCD0_HSYNC/TS2_DVLD/UART2_RX/MDIO (io)
part C pins: C9 PH0/UART0_TX/PCM0_SYNC/H_PCM0_SYNC/SIM1_VPPEN (io), D9 PH6/SPI1_MISO/SPDIF_IN/TWI1_SDA/SIM1_DET (io), D11 PH3/SPI1_CS/PCM0_DIN/H_PCM0_DIN/SIM1_CLK (io), D12 PH1/UART0_RX/PCM0_CLK/H_PCM0_CLK/SIM1_VPPPP (io), E9 PH10/HCEC (io), E10 PH8/HSCL (io), E11 PH2/IR_TX/PCM0_DOUT/H_PCM0_DOUT/SIM1_PWREN (io), E12 PH4/SPI1_CLK/PCM0_MCLK/H_PCM0_MCLK/SIM1_DATA (io), F7 PH9/HSDA (io), F8 PH7/SPDIF_OUT (io), F9 PH5/SPI1_MOSI/SPDIF_MCLK/TWI1_SCK/SIM1_RST (io), H2 PG3/SDC1_D1 (io), H3 PG8/UART1_RTS/PLL_STA_DB/SIM0_VPPEN (io), H4 PG6/UART1_TX (io), H5 PG5/SDC1_D3 (io), H6 VCC-PG (power), H18 VCC-PL (power), H20 PL6/S_JTAG_DO (io), H21 PL10/S_OWC/S_PWM1 (io), H22 PL8/S_PWM0 (io), J2 PG0/SDC1_CLK (io), J3 PG1/SDC1_CMD (io), J5 PG2/SDC1_D0 (io), J6 PG7/UART1_RX (io), J19 PL9/S_IR_RX (io), J20 PL3/S_UART_RX (io), J21 PL7/S_JTAG_DI (io), J22 PL5/S_JTAG_CK (io), K1 PG9/UART1_CTS/PLL_TEST_GPIO/SIM0_VPPPP (io), K2 PG11/PCM2_CLK/H_PCM2_CLK/SIM0_CLK/BIST_RESULT0 (io), K3 PG10/PCM2_SYNC/H_PCM2_SYNC/SIM0_PWREN (io), K20 PL0/S_RSB_SCK/S_TWI_SCK (io), K21 PL4/S_JTAG_MS (io), K22 PL2/S_UART_TX (io), K23 PL1/S_RSB_SDA/S_TWI_SDA (io), L2 PG14/PCM2_MCLK/H_PCM2_MCLK/SIM0_DET/BIST_RESULT3 (io), L3 PG12/PCM2_DOUT/H_PCM2_DOUT/SIM0_DATA/BIST_RESULT1 (io), L4 PG13/PCM2_DIN/H_PCM2_DIN/SIM0_RST/BIST_RESULT2 (io), L5 PG4/SDC1_D2 (io), L19 PM4 (io), L20 PM0 (io), L21 PM1 (io), L22 PM2 (io), M19 VCC_PM (power), M22 PM3 (io)
part D pins: A1 AGND (power), A3 TVOUT (out), A5 EPHY-TXP (io), A6 EPHY-RXP (io), A8 PCIE-REF-CLKP (io), A9 PCIE-TXP (io), A10 PCIE-RXP (io), A12 USB2-DM (io), A13 USB0-DM (io), A14 USB1-SSRXN (io), A17 HTX2P (out), A18 HTX1P (out), A19 HTX0P (out), A20 HTXCP (out), B1 MIC2P (in), B2 MIC2N (in), B3 VCC-EPHY (power), B4 EPHY-RTX (io), B5 EPHY-TXN (io), B6 EPHY-RXN (io), B7 EPHY-LNK-LED (out), B8 PCIE-REF-CLKM (io), B9 PCIE-TXM (io), B10 PCIE-RXM (io), B12 USB2-DP (io), B13 USB0-DP (io), B14 USB1-SSRXP (io), B15 USB1-SSTXN (io), B16 USB1-DM (io), B17 HTX2N (out), B18 HTX1N (out), B19 HTX0N (out), B20 HTXCN (out), C1 MIC1P (in), C2 MIC1N (in), C3 VCC-TV (power), C4 VRA1 (out), C5 EPHY-SPD-LED (out), C15 USB1-SSTXP (io), C16 USB1-DP (io), C19 VCC18-HDMI (power), C20 HHPD (io), D1 LINEOUTR (out), D2 LINEOUTL (out), D3 AC-AVCC (power), D4 VRA2 (out), D5 AC-SYS-VDD-OUT (out), D15 HSIC-STR (io), D16 HSIC-VCC (power), D18 VDD09-HDMI (power), E1 AGND (power), E3 AGND (power), E4 AC-LDOIN (power), E5 AGND (power), E6 AC-SYS-VDD-IN (in), E14 VCC-USB (power), E17 HSIC-DAT (io), F5 MBIAS (out), G12 VDD09-PCIE (power), G16 VDD-USB (power), H11 VCC-PCIE (power)
part E pins: A22 DXVCCIO (power), B21 KEYADC (in), B22 DXOUT (out), B23 DXIN (in), C7 TEST2 (io), C23 REFCLK-OUT (out), D19 BIAS-VRAL (out), D20 BIAS-ITEST (out), D21 BIAS-REXT (out), D22 DXLDO-OUT (power), E7 TEST3 (io), E8 TEST1 (io), E19 VCC18-BIAS (power), E21 CLOCK-SELECT (io), E22 WREQIN (in), F11 JTAG-SEL0 (in), F19 RTC-VIO (out), F20 VCC-RTC (power), F22 X32KOUT (out), F23 X32KIN (in), G10 JTAG-SEL1 (in), G17 UBOOT (in), G20 X32KFOUT (out), G21 NMI (io), G22 RESET (in), H17 BOOT-SELECT (in), H19 TEST (in), P18 VCC-PLL (power), V21 PLL-TEST (out), V22 X24MIN (in), V23 X24MOUT (out)
part F pins: G8 VCC-IO (power), G11 VDD-EFUSE (power), G13 VDD-SYS (power), G14 VDD-SYS (power), H13 VDD-SYS (power), H14 VDD-SYS (power), J13 VDD-SYS (power), J14 VDD-SYS (power), K18 VDD-CPUS (power), L8 VDD-GPU (power), L16 VDD-CPU (power), L17 VDD-CPU (power), M8 VDD-GPU (power), M9 VDD-GPU (power), M16 VDD-CPU (power), M17 VDD-CPU (power), N8 VDD-GPU (power), N9 VDD-GPU (power), N16 VDD-CPU (power), N17 VDD-CPU (power), P8 VDD-GPU (power), P9 VDD-GPU (power), P15 VDD-CPU (power), P16 VDD-CPU (power), P17 VDD-CPU (power), R7 VDD-GPUFB (power), R16 VDD-CPUFB (power), T17 VDD-CPUFB (power)
part G pins: A16 GND (power), A21 GND (power), A23 GND (power), AA8 GND (power), AA16 GND (power), AA21 GND (power), AB3 GND (power), AB13 GND (power), AB21 GND (power), AC1 GND (power), AC5 GND (power), AC11 GND (power), AC19 GND (power), AC23 GND (power), C12 GND (power), C13 GND (power), C14 GND (power), C18 GND (power), C22 GND (power), D23 GND (power), E13 GND (power), E15 GND (power), E16 GND (power), E18 GND (power), F12 GND (power), F13 GND (power), F14 GND (power), F15 GND (power), F16 GND (power), F17 GND (power), F21 GND (power), G7 GND (power), G9 GND (power), G15 GND (power), H1 GND (power), H7 GND (power), H8 GND (power), H9 GND (power), H10 GND (power), H12 GND (power), H15 GND (power), H16 GND (power), H23 GND (power), J7 GND (power), J8 GND (power), J9 GND (power), J10 GND (power), J11 GND (power), J12 GND (power), J15 GND (power), J16 GND (power), J17 GND (power), K7 GND (power), K8 GND (power), K9 GND (power), K10 GND (power), K11 GND (power), K12 GND (power), K13 GND (power), K14 GND (power), K15 GND (power), K16 GND (power), K17 GND (power), L7 GND (power), L9 GND (power), L10 GND (power), L11 GND (power), L12 GND (power), L13 GND (power), L14 GND (power), L15 GND (power), L18 GND (power), M1 GND (power), M7 GND (power), M10 GND (power), M11 GND (power), M12 GND (power), M13 GND (power), M14 GND (power), M15 GND (power), M18 GND (power), M23 GND (power), N7 GND (power), N10 GND (power), N11 GND (power), N12 GND (power), N13 GND (power), N14 GND (power), N15 GND (power), N18 GND (power), P7 GND (power), P10 GND (power), P11 GND (power), P12 GND (power), P13 GND (power), P14 GND (power), P20 GND (power), R8 GND (power), R9 GND (power), R10 GND (power), R11 GND (power), R12 GND (power), R13 GND (power), R14 GND (power), R15 GND (power), R17 GND (power), R18 GND (power), T7 GND (power), T8 GND (power), T9 GND (power), T10 GND (power), T11 GND (power), T12 GND (power), T13 GND (power), T14 GND (power), T15 GND (power), T16 GND (power), T18 GND (power), T19 GND (power), U6 GND (power), U7 GND (power), U9 GND (power), U10 GND (power), U11 GND (power), U12 GND (power), U15 GND (power), U17 GND (power), U18 GND (power), U22 GND (power), U23 GND (power), V5 GND (power), V7 GND (power), V13 GND (power), V17 GND (power), V19 GND (power), V20 GND (power), W1 GND (power), W3 GND (power), W10 GND (power), W21 GND (power), W23 GND (power), Y5 GND (power), Y13 GND (power), Y19 GND (power)
part A text: SDRAM section
part B text: EMMC/SD2/SPI0; LCD/ETHERNET/CSI; SD0/JTAG
part C text: SD1/UART1/PCM2/SIM; UART0/PCM0; UART/JTAG
part D text: PCIE; USB; HDMI; TV; HSIC; ETHERNET; AUDIO
part F text: POWER pins
part G text: GND pins

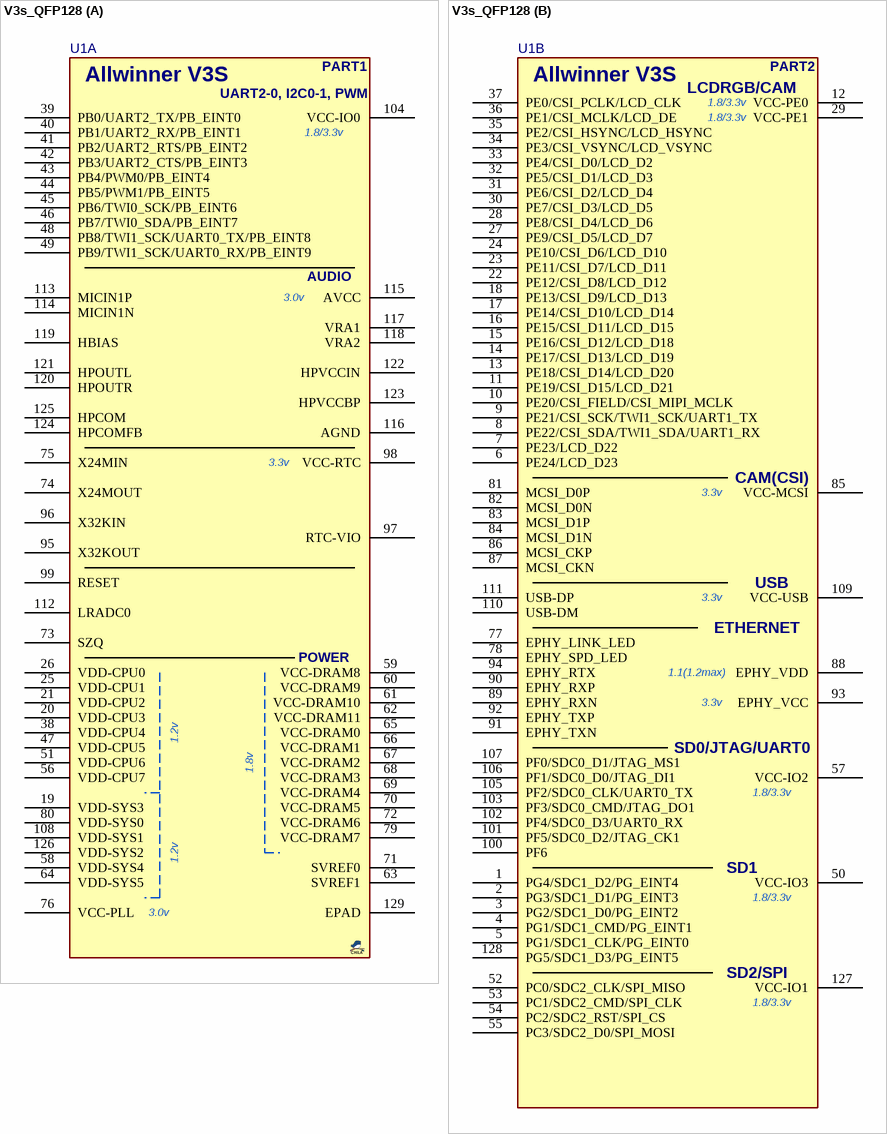
[diagram p8: symbol V3s_QFP128]

## V3s_QFP128
designator U1, comment Allwinner V3s  (value not drawn)
processor, Cortex-A7 1.2GHz w 512Mb DDR2; MANF: Allwinner; MANF_P#: V3s; PARAM: Cortex-A7 1.2GHz w 512Mb DDR2; VALUE: Allwinner V3s; PACKAGE: eLQFP-128
footprint QFG40_128T (LQFP128, PQFP-128, MS-026(JEDEC), 14X14mm, 0.4mm)
part A pins: 19 VDD-SYS3, 20 VDD-CPU3, 21 VDD-CPU2, 25 VDD-CPU1, 26 VDD-CPU0, 38 VDD-CPU4, 39 PB0/UART2_TX/PB_EINT0, 40 PB1/UART2_RX/PB_EINT1, 41 PB2/UART2_RTS/PB_EINT2, 42 PB3/UART2_CTS/PB_EINT3, 43 PB4/PWM0/PB_EINT4, 44 PB5/PWM1/PB_EINT5, 45 PB6/TWI0_SCK/PB_EINT6, 46 PB7/TWI0_SDA/PB_EINT7, 47 VDD-CPU5, 48 PB8/TWI1_SCK/UART0_TX/PB_EINT8, 49 PB9/TWI1_SCK/UART0_RX/PB_EINT9, 51 VDD-CPU6, 56 VDD-CPU7, 58 VDD-SYS4, 59 VCC-DRAM8, 60 VCC-DRAM9, 61 VCC-DRAM10, 62 VCC-DRAM11, 63 SVREF1, 64 VDD-SYS5, 65 VCC-DRAM0, 66 VCC-DRAM1, 67 VCC-DRAM2, 68 VCC-DRAM3, 69 VCC-DRAM4, 70 VCC-DRAM5, 71 SVREF0, 72 VCC-DRAM6, 73 SZQ, 74 X24MOUT, 75 X24MIN, 76 VCC-PLL, 79 VCC-DRAM7, 80 VDD-SYS0, 95 X32KOUT, 96 X32KIN, 97 RTC-VIO, 98 VCC-RTC, 99 RESET, 104 VCC-IO0, 108 VDD-SYS1, 112 LRADC0, 113 MICIN1P, 114 MICIN1N, 115 AVCC, 116 AGND, 117 VRA1, 118 VRA2, 119 HBIAS, 120 HPOUTR, 121 HPOUTL, 122 HPVCCIN, 123 HPVCCBP, 124 HPCOMFB, 125 HPCOM, 126 VDD-SYS2, 129 EPAD
part B pins: 1 PG4/SDC1_D2/PG_EINT4, 2 PG3/SDC1_D1/PG_EINT3, 3 PG2/SDC1_D0/PG_EINT2, 4 PG1/SDC1_CMD/PG_EINT1, 5 PG1/SDC1_CLK/PG_EINT0, 6 PE24/LCD_D23, 7 PE23/LCD_D22, 8 PE22/CSI_SDA/TWI1_SDA/UART1_RX, 9 PE21/CSI_SCK/TWI1_SCK/UART1_TX, 10 PE20/CSI_FIELD/CSI_MIPI_MCLK, 11 PE19/CSI_D15/LCD_D21, 12 VCC-PE0, 13 PE18/CSI_D14/LCD_D20, 14 PE17/CSI_D13/LCD_D19, 15 PE16/CSI_D12/LCD_D18, 16 PE15/CSI_D11/LCD_D15, 17 PE14/CSI_D10/LCD_D14, 18 PE13/CSI_D9/LCD_D13, 22 PE12/CSI_D8/LCD_D12, 23 PE11/CSI_D7/LCD_D11, 24 PE10/CSI_D6/LCD_D10, 27 PE9/CSI_D5/LCD_D7, 28 PE8/CSI_D4/LCD_D6, 29 VCC-PE1, 30 PE7/CSI_D3/LCD_D5, 31 PE6/CSI_D2/LCD_D4, 32 PE5/CSI_D1/LCD_D3, 33 PE4/CSI_D0/LCD_D2, 34 PE3/CSI_VSYNC/LCD_VSYNC, 35 PE2/CSI_HSYNC/LCD_HSYNC, 36 PE1/CSI_MCLK/LCD_DE, 37 PE0/CSI_PCLK/LCD_CLK, 50 VCC-IO3, 52 PC0/SDC2_CLK/SPI_MISO, 53 PC1/SDC2_CMD/SPI_CLK, 54 PC2/SDC2_RST/SPI_CS, 55 PC3/SDC2_D0/SPI_MOSI, 57 VCC-IO2, 77 EPHY_LINK_LED, 78 EPHY_SPD_LED, 81 MCSI_D0P, 82 MCSI_D0N, 83 MCSI_D1P, 84 MCSI_D1N, 85 VCC-MCSI, 86 MCSI_CKP, 87 MCSI_CKN, 88 EPHY_VDD, 89 EPHY_RXN, 90 EPHY_RXP, 91 EPHY_TXN, 92 EPHY_TXP, 93 EPHY_VCC, 94 EPHY_RTX, 100 PF6, 101 PF5/SDC0_D2/JTAG_CK1, 102 PF4/SDC0_D3/UART0_RX, 103 PF3/SDC0_CMD/JTAG_DO1, 105 PF2/SDC0_CLK/UART0_TX, 106 PF1/SDC0_D0/JTAG_DI1, 107 PF0/SDC0_D1/JTAG_MS1, 109 VCC-USB, 110 USB-DM, 111 USB-DP, 127 VCC-IO1, 128 PG5/SDC1_D3/PG_EINT5
part A text: PART1; Allwinner V3S; UART2-0, I2C0-1, PWM; 1.8/3.3v; AUDIO; 3.0v; 3.3v; POWER; 1.2v; 1.8v
part B text: PART2; Allwinner V3S; LCDRGB/CAM; 1.8/3.3v; CAM(CSI); 3.3v; USB; ETHERNET; 1.1(1.2max); SD0/JTAG/UART0; SD1; SD2/SPI